# Altium integrated library Motorola Microcontroller 16-Bit.IntLib: 323 symbols (part 20 of 21)
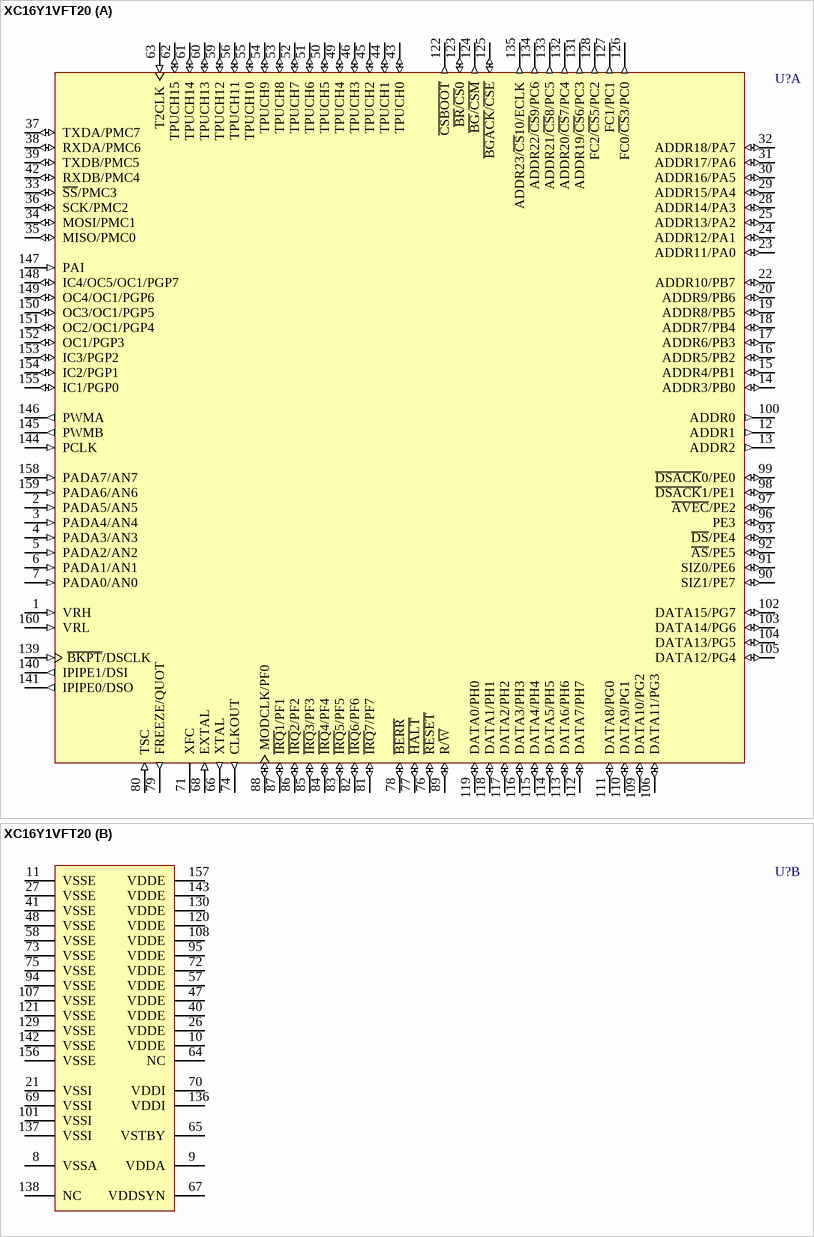
[diagram p159: symbol XC16Y1VFT20]

## XC16Y1VFT20
designator U?
16-Bit Microcontroller; PackageDocument: rev1.3, Nov-1998; Published: 21-Mar-2003; LatestRevisionDate: 6-Jun-2005; LatestRevisionNote: Stylized 3D Model Added.; DatasheetDocument: Jan-1993; PackageReference: 864A-01; Publisher: Altium Limited; Code_IPC: QFP28X28-160; ComponentLink1Description: Manufacturer Link; ComponentLink1URL: http://www.freescale.com/; ComponentLink2Description: Datasheet; ComponentLink2URL: http://www.freescale.com/files/microcontrollers/doc/prod_brief/MC68HC16Y1TS.pdf
footprint 864A-01 (QFP; 160 Leads; Body 28 x 28 mm; Pitch 0.65 mm)
3D model XC16-864A-01 (QFP; 160 Leads; Body 28 x 28 mm; Pitch 0.65 mm)
part A pins: 1 VRH (in), 2 PADA5/AN5 (in), 3 PADA4/AN4 (in), 4 PADA3/AN3 (in), 5 PADA2/AN2 (in), 6 PADA1/AN1 (in), 7 PADA0/AN0 (in), 12 ADDR1 (out), 13 ADDR2 (out), 14 ADDR3/PB0 (io), 15 ADDR4/PB1 (io), 16 ADDR5/PB2 (io), 17 ADDR6/PB3 (io), 18 ADDR7/PB4 (io), 19 ADDR8/PB5 (io), 20 ADDR9/PB6 (io), 22 ADDR10/PB7 (io), 23 ADDR11/PA0 (io), 24 ADDR12/PA1 (io), 25 ADDR13/PA2 (io), 28 ADDR14/PA3 (io), 29 ADDR15/PA4 (io), 30 ADDR16/PA5 (io), 31 ADDR17/PA6 (io), 32 ADDR18/PA7 (io), 33 ~{SS}/PMC3 (io), 34 MOSI/PMC1 (io), 35 MISO/PMC0 (io), 36 SCK/PMC2 (io), 37 TXDA/PMC7 (io), 38 RXDA/PMC6 (io), 39 TXDB/PMC5 (io), 42 RXDB/PMC4 (io), 43 TPUCH0 (io), 44 TPUCH1 (io), 45 TPUCH2 (io), 46 TPUCH3 (io), 49 TPUCH4 (io), 50 TPUCH5 (io), 51 TPUCH6 (io), 52 TPUCH7 (io), 53 TPUCH8 (io), 54 TPUCH9 (io), 55 TPUCH10 (io), 56 TPUCH11 (io), 59 TPUCH12 (io), 60 TPUCH13 (io), 61 TPUCH14 (io), 62 TPUCH15 (io), 63 T2CLK (in), 66 XTAL (out), 68 EXTAL (in), 71 XFC, 74 CLKOUT (out), 76 ~{RESET} (io), 77 ~{HALT} (io), 78 ~{BERR} (io), 79 FREEZE/QUOT (out), 80 TSC (in), 81 ~{IRQ}7/PF7 (io), 82 ~{IRQ}6/PF6 (io), 83 ~{IRQ}5/PF5 (io), 84 ~{IRQ}4/PF4 (io), 85 ~{IRQ}3/PF3 (io), 86 ~{IRQ}2/PF2 (io), 87 ~{IRQ}1/PF1 (io), 88 MODCLK/PF0 (io), 89 R/~{W} (io), 90 SIZ1/PE7 (io), 91 SIZ0/PE6 (io), 92 ~{AS}/PE5 (io), 93 ~{DS}/PE4 (io), 96 PE3 (io), 97 ~{AVEC}/PE2 (io), 98 ~{DSACK}1/PE1 (io), 99 ~{DSACK}0/PE0 (io), 100 ADDR0 (out), 102 DATA15/PG7 (io), 103 DATA14/PG6 (io), 104 DATA13/PG5 (io), 105 DATA12/PG4 (io), 106 DATA11/PG3 (io), 109 DATA10/PG2 (io), 110 DATA9/PG1 (io), 111 DATA8/PG0 (io), 112 DATA7/PH7 (io), 113 DATA6/PH6 (io), 114 DATA5/PH5 (io), 115 DATA4/PH4 (io), 116 DATA3/PH3 (io), 117 DATA2/PH2 (io), 118 DATA1/PH1 (io), 119 DATA0/PH0 (io), 122 ~{CSBOOT} (out), 123 ~{BR}/~{CS}0 (io), 124 ~{BG}/~{CSM} (out), 125 ~{BGACK}/~{CSE} (io), 126 FC0/~{CS}3/PC0 (out), 127 FC1/PC1 (out), 128 FC2/~{CS}5/PC2 (out), 131 ADDR19/~{CS}6/PC3 (out), 132 ADDR20/~{CS}7/PC4 (out), 133 ADDR21/~{CS}8/PC5 (out), 134 ADDR22/~{CS}9/PC6 (out), 135 ADDR23/~{CS}10/ECLK (out), 139 ~{BKPT}/DSCLK (in), 140 IPIPE1/DSI (out), 141 IPIPE0/DSO (out), 144 PCLK (in), 145 PWMB (out), 146 PWMA (out), 147 PAI (in), 148 IC4/OC5/OC1/PGP7 (io), 149 OC4/OC1/PGP6 (io), 150 OC3/OC1/PGP5 (io), 151 OC2/OC1/PGP4 (io), 152 OC1/PGP3 (io), 153 IC3/PGP2 (io), 154 IC2/PGP1 (io), 155 IC1/PGP0 (io), 158 PADA7/AN7 (in), 159 PADA6/AN6 (in), 160 VRL (in)
part B pins: 8 VSSA (power), 9 VDDA (power), 10 VDDE (power), 11 VSSE (power), 21 VSSI (power), 26 VDDE (power), 27 VSSE (power), 40 VDDE (power), 41 VSSE (power), 47 VDDE (power), 48 VSSE (power), 57 VDDE (power), 58 VSSE (power), 64 NC, 65 VSTBY (power), 67 VDDSYN (power), 69 VSSI (power), 70 VDDI (power), 72 VDDE (power), 73 VSSE (power), 75 VSSE (power), 94 VSSE (power), 95 VDDE (power), 101 VSSI (power), 107 VSSE (power), 108 VDDE (power), 120 VDDE (power), 121 VSSE (power), 129 VSSE (power), 130 VDDE (power), 136 VDDI (power), 137 VSSI (power), 138 NC, 142 VSSE (power), 143 VDDE (power), 156 VSSE (power), 157 VDDE (power)

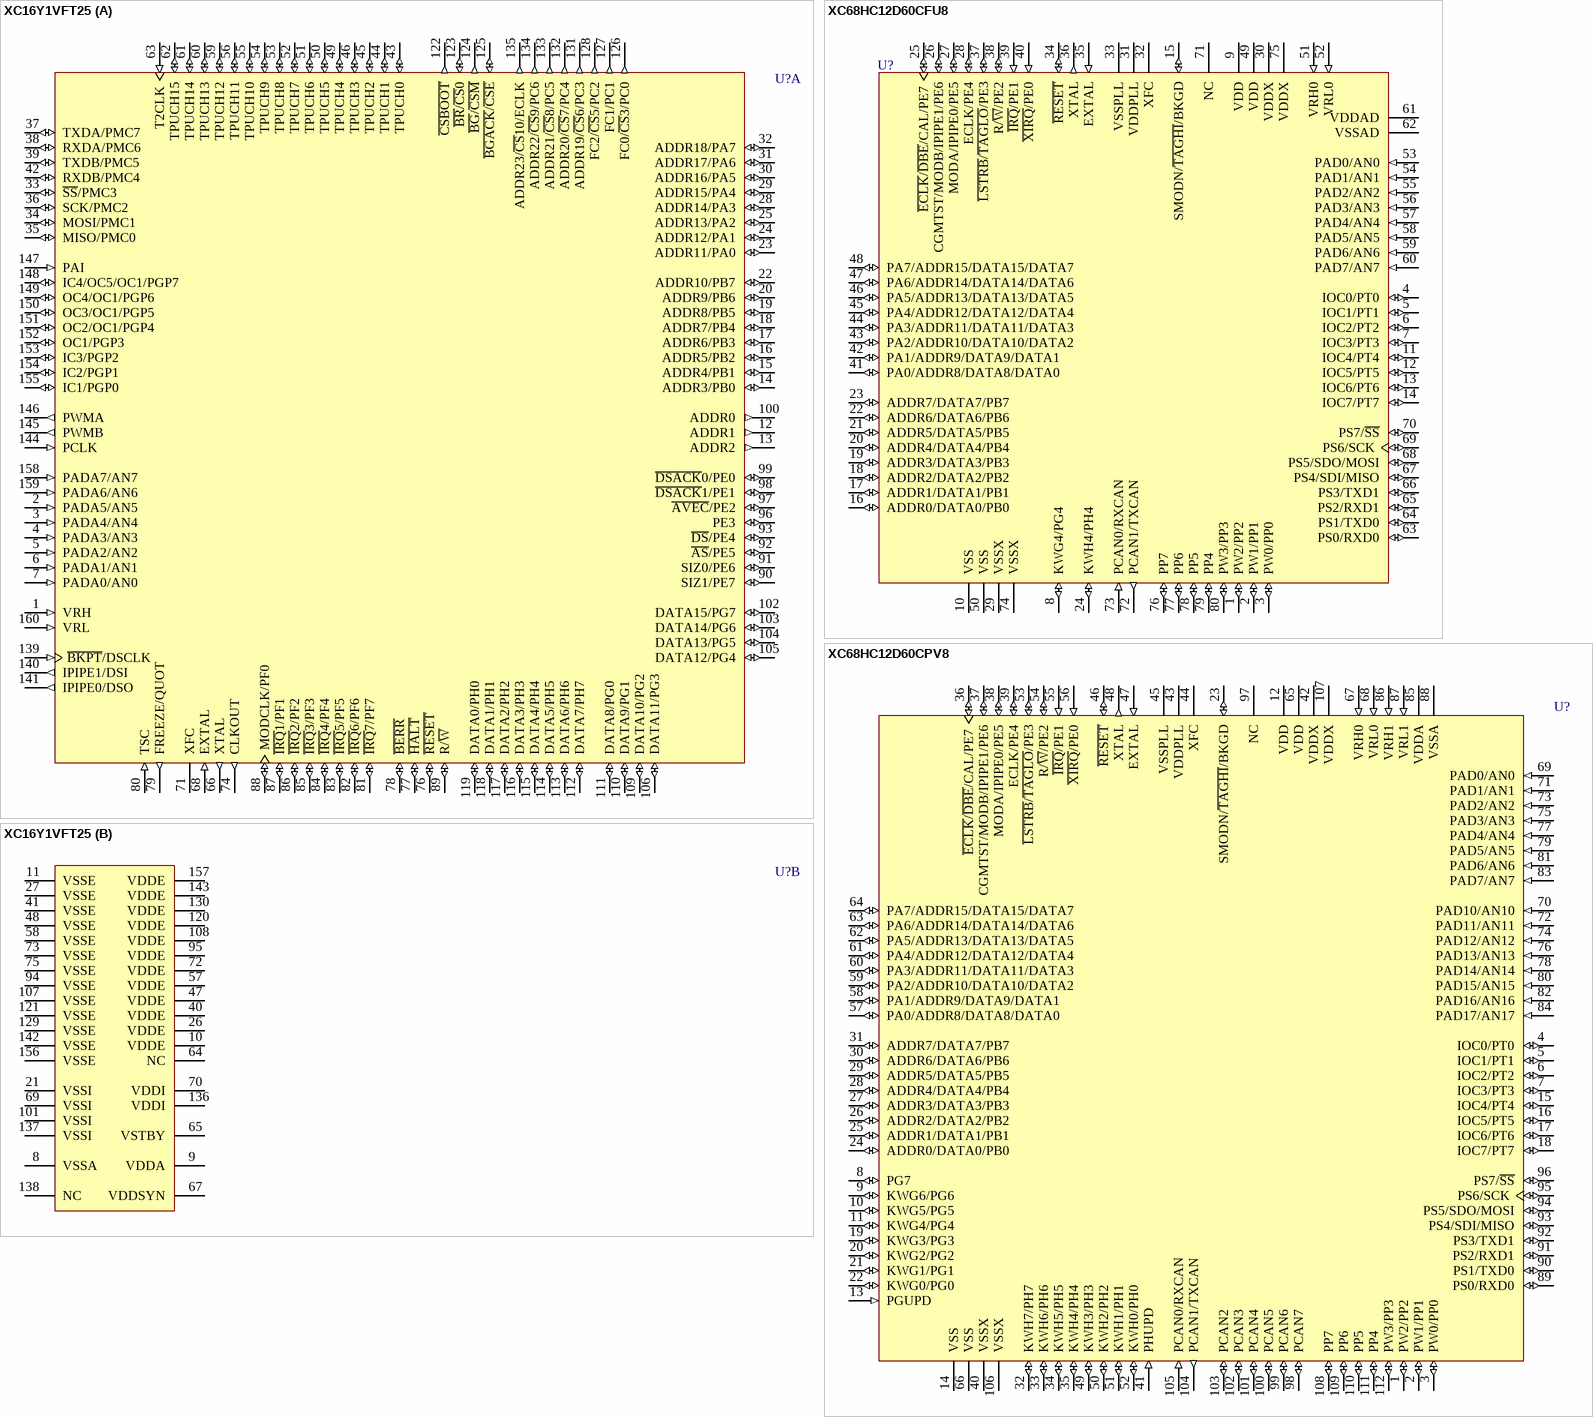
[diagram p136: symbols XC16Y1VFT25 to XC68HC12D60CPV8]

## XC16Y1VFT25
designator U?
16-Bit Microcontroller; PackageDocument: rev1.3, Nov-1998; Published: 21-Mar-2003; LatestRevisionDate: 6-Jun-2005; LatestRevisionNote: Stylized 3D Model Added.; DatasheetDocument: Jan-1993; PackageReference: 864A-01; Publisher: Altium Limited; Code_IPC: QFP28X28-160; ComponentLink1Description: Manufacturer Link; ComponentLink1URL: http://www.freescale.com/; ComponentLink2Description: Datasheet; ComponentLink2URL: http://www.freescale.com/files/microcontrollers/doc/prod_brief/MC68HC16Y1TS.pdf
footprint 864A-01 (QFP; 160 Leads; Body 28 x 28 mm; Pitch 0.65 mm)
3D model XC16-864A-01 (QFP; 160 Leads; Body 28 x 28 mm; Pitch 0.65 mm)
part A pins: 1 VRH (in), 2 PADA5/AN5 (in), 3 PADA4/AN4 (in), 4 PADA3/AN3 (in), 5 PADA2/AN2 (in), 6 PADA1/AN1 (in), 7 PADA0/AN0 (in), 12 ADDR1 (out), 13 ADDR2 (out), 14 ADDR3/PB0 (io), 15 ADDR4/PB1 (io), 16 ADDR5/PB2 (io), 17 ADDR6/PB3 (io), 18 ADDR7/PB4 (io), 19 ADDR8/PB5 (io), 20 ADDR9/PB6 (io), 22 ADDR10/PB7 (io), 23 ADDR11/PA0 (io), 24 ADDR12/PA1 (io), 25 ADDR13/PA2 (io), 28 ADDR14/PA3 (io), 29 ADDR15/PA4 (io), 30 ADDR16/PA5 (io), 31 ADDR17/PA6 (io), 32 ADDR18/PA7 (io), 33 ~{SS}/PMC3 (io), 34 MOSI/PMC1 (io), 35 MISO/PMC0 (io), 36 SCK/PMC2 (io), 37 TXDA/PMC7 (io), 38 RXDA/PMC6 (io), 39 TXDB/PMC5 (io), 42 RXDB/PMC4 (io), 43 TPUCH0 (io), 44 TPUCH1 (io), 45 TPUCH2 (io), 46 TPUCH3 (io), 49 TPUCH4 (io), 50 TPUCH5 (io), 51 TPUCH6 (io), 52 TPUCH7 (io), 53 TPUCH8 (io), 54 TPUCH9 (io), 55 TPUCH10 (io), 56 TPUCH11 (io), 59 TPUCH12 (io), 60 TPUCH13 (io), 61 TPUCH14 (io), 62 TPUCH15 (io), 63 T2CLK (in), 66 XTAL (out), 68 EXTAL (in), 71 XFC, 74 CLKOUT (out), 76 ~{RESET} (io), 77 ~{HALT} (io), 78 ~{BERR} (io), 79 FREEZE/QUOT (out), 80 TSC (in), 81 ~{IRQ}7/PF7 (io), 82 ~{IRQ}6/PF6 (io), 83 ~{IRQ}5/PF5 (io), 84 ~{IRQ}4/PF4 (io), 85 ~{IRQ}3/PF3 (io), 86 ~{IRQ}2/PF2 (io), 87 ~{IRQ}1/PF1 (io), 88 MODCLK/PF0 (io), 89 R/~{W} (io), 90 SIZ1/PE7 (io), 91 SIZ0/PE6 (io), 92 ~{AS}/PE5 (io), 93 ~{DS}/PE4 (io), 96 PE3 (io), 97 ~{AVEC}/PE2 (io), 98 ~{DSACK}1/PE1 (io), 99 ~{DSACK}0/PE0 (io), 100 ADDR0 (out), 102 DATA15/PG7 (io), 103 DATA14/PG6 (io), 104 DATA13/PG5 (io), 105 DATA12/PG4 (io), 106 DATA11/PG3 (io), 109 DATA10/PG2 (io), 110 DATA9/PG1 (io), 111 DATA8/PG0 (io), 112 DATA7/PH7 (io), 113 DATA6/PH6 (io), 114 DATA5/PH5 (io), 115 DATA4/PH4 (io), 116 DATA3/PH3 (io), 117 DATA2/PH2 (io), 118 DATA1/PH1 (io), 119 DATA0/PH0 (io), 122 ~{CSBOOT} (out), 123 ~{BR}/~{CS}0 (io), 124 ~{BG}/~{CSM} (out), 125 ~{BGACK}/~{CSE} (io), 126 FC0/~{CS}3/PC0 (out), 127 FC1/PC1 (out), 128 FC2/~{CS}5/PC2 (out), 131 ADDR19/~{CS}6/PC3 (out), 132 ADDR20/~{CS}7/PC4 (out), 133 ADDR21/~{CS}8/PC5 (out), 134 ADDR22/~{CS}9/PC6 (out), 135 ADDR23/~{CS}10/ECLK (out), 139 ~{BKPT}/DSCLK (in), 140 IPIPE1/DSI (out), 141 IPIPE0/DSO (out), 144 PCLK (in), 145 PWMB (out), 146 PWMA (out), 147 PAI (in), 148 IC4/OC5/OC1/PGP7 (io), 149 OC4/OC1/PGP6 (io), 150 OC3/OC1/PGP5 (io), 151 OC2/OC1/PGP4 (io), 152 OC1/PGP3 (io), 153 IC3/PGP2 (io), 154 IC2/PGP1 (io), 155 IC1/PGP0 (io), 158 PADA7/AN7 (in), 159 PADA6/AN6 (in), 160 VRL (in)
part B pins: 8 VSSA (power), 9 VDDA (power), 10 VDDE (power), 11 VSSE (power), 21 VSSI (power), 26 VDDE (power), 27 VSSE (power), 40 VDDE (power), 41 VSSE (power), 47 VDDE (power), 48 VSSE (power), 57 VDDE (power), 58 VSSE (power), 64 NC, 65 VSTBY (power), 67 VDDSYN (power), 69 VSSI (power), 70 VDDI (power), 72 VDDE (power), 73 VSSE (power), 75 VSSE (power), 94 VSSE (power), 95 VDDE (power), 101 VSSI (power), 107 VSSE (power), 108 VDDE (power), 120 VDDE (power), 121 VSSE (power), 129 VSSE (power), 130 VDDE (power), 136 VDDI (power), 137 VSSI (power), 138 NC, 142 VSSE (power), 143 VDDE (power), 156 VSSE (power), 157 VDDE (power)

## XC68HC12D60CFU8
designator U?
16-Bit Microcontroller; PackageDocument: 2000; Published: 21-Mar-2003; LatestRevisionDate: 6-Jun-2005; LatestRevisionNote: Stylized 3D Model Added.; DatasheetDocument: Jul-2002; PackageReference: 841B; Publisher: Altium Limited; Code_IPC: QFP14X14-80; ComponentLink1Description: Manufacturer Link; ComponentLink1URL: http://www.freescale.com/; ComponentLink2Description: Datasheet; ComponentLink2URL: http://www.freescale.com/files/microcontrollers/doc/data_sheet/MC68HC912D60.pdf
footprint 841B (Plastic QFP; 80 Leads; Body 14 x 14 mm; Pitch 0.65 mm)
3D model XC68HC12-841B (Plastic QFP; 80 Leads; Body 14 x 14 mm; Pitch 0.65 mm)
pins: 1 PW2/PP2 (io), 2 PW1/PP1 (io), 3 PW0/PP0 (io), 4 IOC0/PT0 (io), 5 IOC1/PT1 (io), 6 IOC2/PT2 (io), 7 IOC3/PT3 (io), 8 KWG4/PG4 (io), 9 VDD (power), 10 VSS (power), 11 IOC4/PT4 (io), 12 IOC5/PT5 (io), 13 IOC6/PT6 (io), 14 IOC7/PT7 (io), 15 SMODN/~{TAGHI}/BKGD (io), 16 ADDR0/DATA0/PB0 (io), 17 ADDR1/DATA1/PB1 (io), 18 ADDR2/DATA2/PB2 (io), 19 ADDR3/DATA3/PB3 (io), 20 ADDR4/DATA4/PB4 (io), 21 ADDR5/DATA5/PB5 (io), 22 ADDR6/DATA6/PB6 (io), 23 ADDR7/DATA7/PB7 (io), 24 KWH4/PH4 (io), 25 ~{ECLK}/~{DBE}/CAL/PE7 (io), 26 CGMTST/MODB/IPIPE1/PE6 (io), 27 MODA/IPIPE0/PE5 (io), 28 ECLK/PE4 (io), 29 VSSX (power), 30 VDDX (power), 31 VDDPLL (power), 32 XFC, 33 VSSPLL (power), 34 ~{RESET} (io), 35 EXTAL (in), 36 XTAL (out), 37 ~{LSTRB}/~{TAGLO}/PE3 (io), 38 R/~{W}/PE2 (io), 39 ~{IRQ}/PE1 (in), 40 ~{XIRQ}/PE0 (in), 41 PA0/ADDR8/DATA8/DATA0 (io), 42 PA1/ADDR9/DATA9/DATA1 (io), 43 PA2/ADDR10/DATA10/DATA2 (io), 44 PA3/ADDR11/DATA11/DATA3 (io), 45 PA4/ADDR12/DATA12/DATA4 (io), 46 PA5/ADDR13/DATA13/DATA5 (io), 47 PA6/ADDR14/DATA14/DATA6 (io), 48 PA7/ADDR15/DATA15/DATA7 (io), 49 VDD (power), 50 VSS (power), 51 VRH0 (in), 52 VRL0 (in), 53 PAD0/AN0 (in), 54 PAD1/AN1 (in), 55 PAD2/AN2 (in), 56 PAD3/AN3 (in), 57 PAD4/AN4 (in), 58 PAD5/AN5 (in), 59 PAD6/AN6 (in), 60 PAD7/AN7 (in), 61 VDDAD (power), 62 VSSAD (power), 63 PS0/RXD0 (io), 64 PS1/TXD0 (io), 65 PS2/RXD1 (io), 66 PS3/TXD1 (io), 67 PS4/SDI/MISO (io), 68 PS5/SDO/MOSI (io), 69 PS6/SCK (io), 70 PS7/~{SS} (io), 71 NC, 72 PCAN1/TXCAN (out), 73 PCAN0/RXCAN (in), 74 VSSX (power), 75 VDDX (power), 76 PP7 (io), 77 PP6 (io), 78 PP5 (io), 79 PP4 (io), 80 PW3/PP3 (io)

## XC68HC12D60CPV8
designator U?
16-Bit Microcontroller; PackageDocument: rev3.1, Nov-2000; Published: 21-Mar-2003; LatestRevisionDate: 6-Jun-2005; LatestRevisionNote: Stylized 3D Model Added.; DatasheetDocument: Jul-2002; PackageReference: 987-01; Publisher: Altium Limited; ComponentLink1Description: Manufacturer Link; ComponentLink1URL: http://www.freescale.com/; ComponentLink2Description: Datasheet; ComponentLink2URL: http://www.freescale.com/files/microcontrollers/doc/data_sheet/MC68HC912D60.pdf
footprint 987-01 (QFP; 112 Leads; Body 20 x 20 mm; Pitch 0.65 mm)
3D model XC68HC12-987-01 (QFP; 112 Leads; Body 20 x 20 mm; Pitch 0.65 mm)
pins: 1 PW2/PP2 (io), 2 PW1/PP1 (io), 3 PW0/PP0 (io), 4 IOC0/PT0 (io), 5 IOC1/PT1 (io), 6 IOC2/PT2 (io), 7 IOC3/PT3 (io), 8 PG7 (io), 9 KWG6/PG6 (io), 10 KWG5/PG5 (io), 11 KWG4/PG4 (io), 12 VDD (power), 13 PGUPD (in), 14 VSS (power), 15 IOC4/PT4 (io), 16 IOC5/PT5 (io), 17 IOC6/PT6 (io), 18 IOC7/PT7 (io), 19 KWG3/PG3 (io), 20 KWG2/PG2 (io), 21 KWG1/PG1 (io), 22 KWG0/PG0 (io), 23 SMODN/~{TAGHI}/BKGD (io), 24 ADDR0/DATA0/PB0 (io), 25 ADDR1/DATA1/PB1 (io), 26 ADDR2/DATA2/PB2 (io), 27 ADDR3/DATA3/PB3 (io), 28 ADDR4/DATA4/PB4 (io), 29 ADDR5/DATA5/PB5 (io), 30 ADDR6/DATA6/PB6 (io), 31 ADDR7/DATA7/PB7 (io), 32 KWH7/PH7 (io), 33 KWH6/PH6 (io), 34 KWH5/PH5 (io), 35 KWH4/PH4 (io), 36 ~{ECLK}/~{DBE}/CAL/PE7 (io), 37 CGMTST/MODB/IPIPE1/PE6 (io), 38 MODA/IPIPE0/PE5 (io), 39 ECLK/PE4 (io), 40 VSSX (power), 41 PHUPD (in), 42 VDDX (power), 43 VDDPLL (power), 44 XFC, 45 VSSPLL (power), 46 ~{RESET} (io), 47 EXTAL (in), 48 XTAL (out), 49 KWH3/PH3 (io), 50 KWH2/PH2 (io), 51 KWH1/PH1 (io), 52 KWH0/PH0 (io), 53 ~{LSTRB}/~{TAGLO}/PE3 (io), 54 R/~{W}/PE2 (io), 55 ~{IRQ}/PE1 (in), 56 ~{XIRQ}/PE0 (in), 57 PA0/ADDR8/DATA8/DATA0 (io), 58 PA1/ADDR9/DATA9/DATA1 (io), 59 PA2/ADDR10/DATA10/DATA2 (io), 60 PA3/ADDR11/DATA11/DATA3 (io), 61 PA4/ADDR12/DATA12/DATA4 (io), 62 PA5/ADDR13/DATA13/DATA5 (io), 63 PA6/ADDR14/DATA14/DATA6 (io), 64 PA7/ADDR15/DATA15/DATA7 (io), 65 VDD (power), 66 VSS (power), 67 VRH0 (in), 68 VRL0 (in), 69 PAD0/AN0 (in), 70 PAD10/AN10 (in), 71 PAD1/AN1 (in), 72 PAD11/AN11 (in), 73 PAD2/AN2 (in), 74 PAD12/AN12 (in), 75 PAD3/AN3 (in), 76 PAD13/AN13 (in), 77 PAD4/AN4 (in), 78 PAD14/AN14 (in), 79 PAD5/AN5 (in), 80 PAD15/AN15 (in), 81 PAD6/AN6 (in), 82 PAD16/AN16 (in), 83 PAD7/AN7 (in), 84 PAD17/AN17 (in), 85 VDDA (power), 86 VRH1 (in), 87 VRL1 (in), 88 VSSA (power), 89 PS0/RXD0 (io), 90 PS1/TXD0 (io), 91 PS2/RXD1 (io), 92 PS3/TXD1 (io), 93 PS4/SDI/MISO (io), 94 PS5/SDO/MOSI (io), 95 PS6/SCK (io), 96 PS7/~{SS} (io), 97 NC, 98 PCAN7 (io), 99 PCAN6 (io), 100 PCAN5 (io), 101 PCAN4 (io), 102 PCAN3 (io), 103 PCAN2 (io), 104 PCAN1/TXCAN (out), 105 PCAN0/RXCAN (in), 106 VSSX (power), 107 VDDX (power), 108 PP7 (io), 109 PP6 (io), 110 PP5 (io), 111 PP4 (io), 112 PW3/PP3 (io)

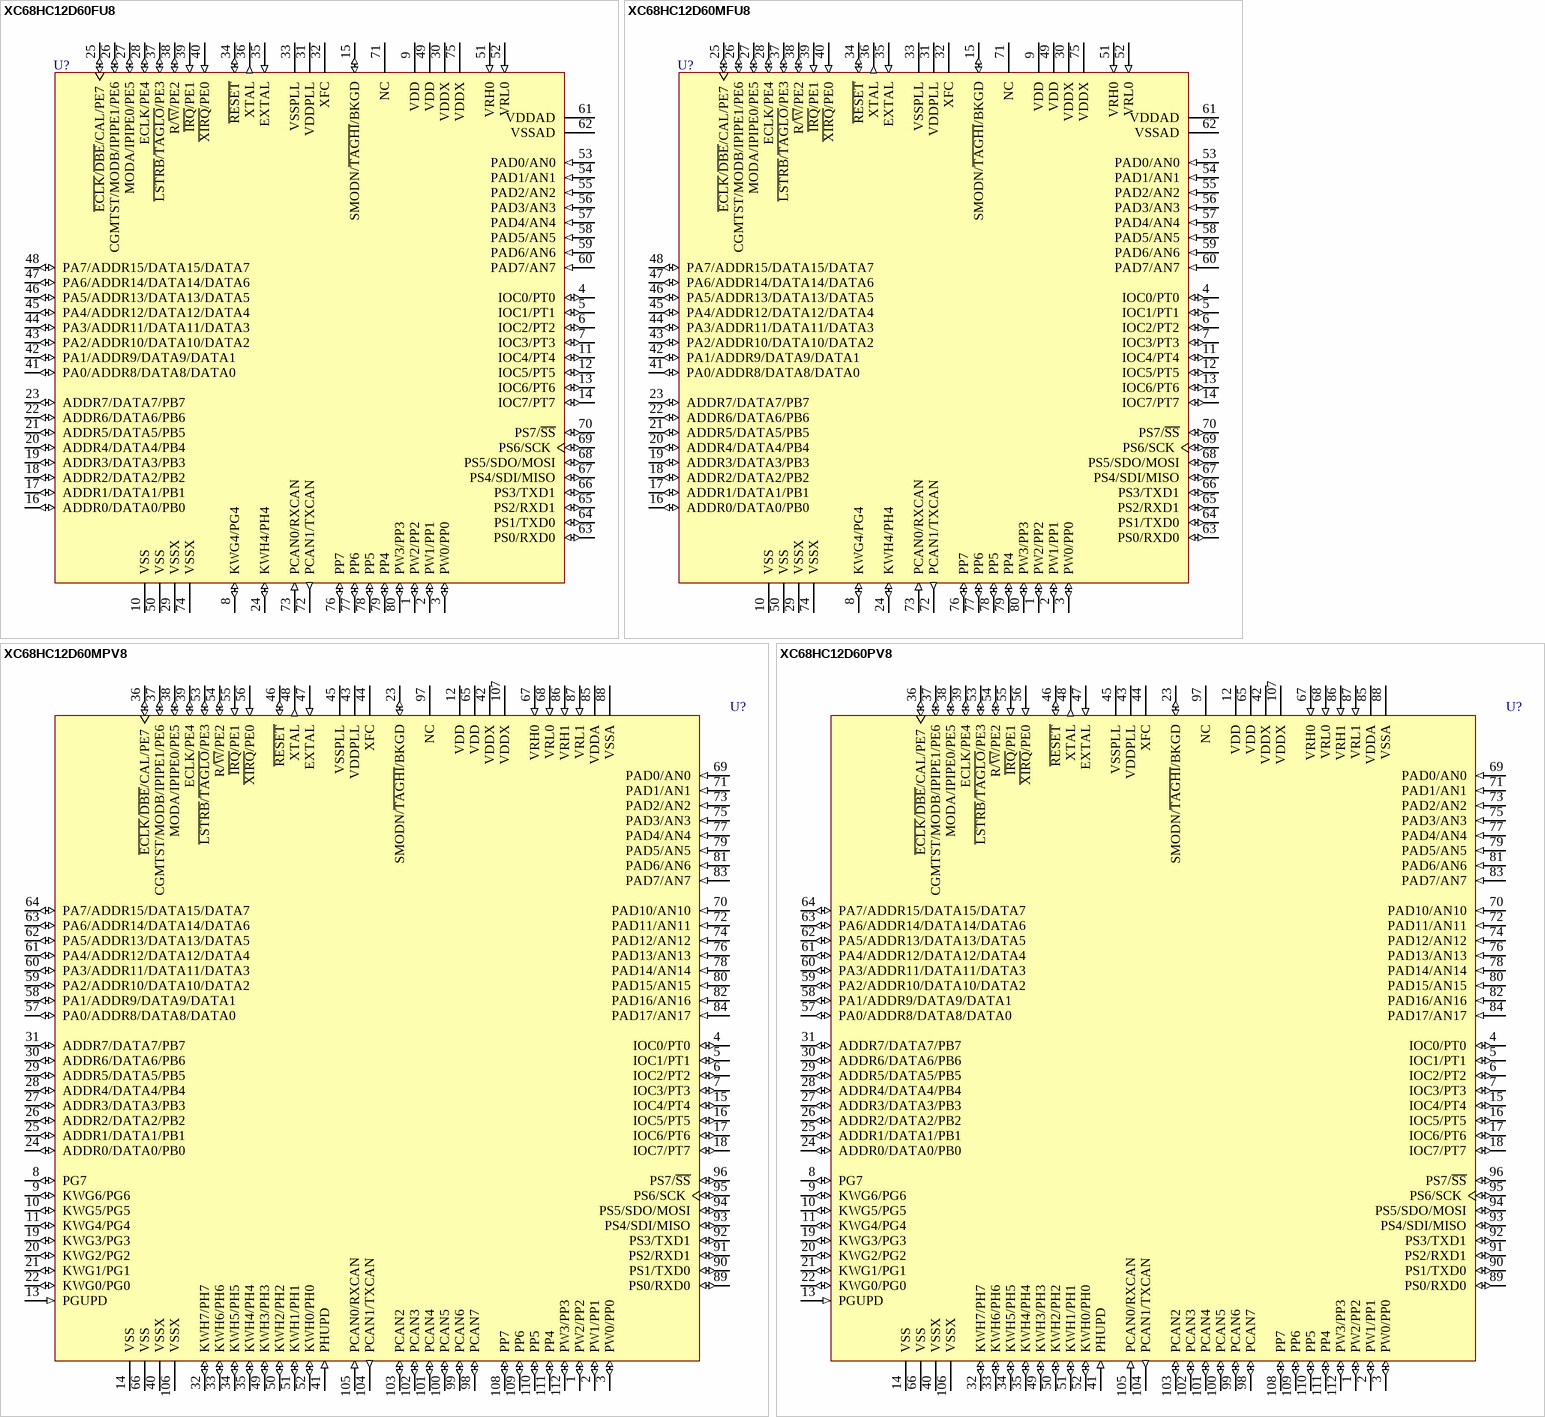
[diagram p137: symbols XC68HC12D60FU8 to XC68HC12D60PV8]

## XC68HC12D60FU8
designator U?
16-Bit Microcontroller; PackageDocument: 2000; Published: 21-Mar-2003; LatestRevisionDate: 6-Jun-2005; LatestRevisionNote: Stylized 3D Model Added.; DatasheetDocument: Jul-2002; PackageReference: 841B; Publisher: Altium Limited; Code_IPC: QFP14X14-80; ComponentLink1Description: Manufacturer Link; ComponentLink1URL: http://www.freescale.com/; ComponentLink2Description: Datasheet; ComponentLink2URL: http://www.freescale.com/files/microcontrollers/doc/data_sheet/MC68HC912D60.pdf
footprint 841B (Plastic QFP; 80 Leads; Body 14 x 14 mm; Pitch 0.65 mm)
3D model XC68HC12-841B (Plastic QFP; 80 Leads; Body 14 x 14 mm; Pitch 0.65 mm)
pins: 1 PW2/PP2 (io), 2 PW1/PP1 (io), 3 PW0/PP0 (io), 4 IOC0/PT0 (io), 5 IOC1/PT1 (io), 6 IOC2/PT2 (io), 7 IOC3/PT3 (io), 8 KWG4/PG4 (io), 9 VDD (power), 10 VSS (power), 11 IOC4/PT4 (io), 12 IOC5/PT5 (io), 13 IOC6/PT6 (io), 14 IOC7/PT7 (io), 15 SMODN/~{TAGHI}/BKGD (io), 16 ADDR0/DATA0/PB0 (io), 17 ADDR1/DATA1/PB1 (io), 18 ADDR2/DATA2/PB2 (io), 19 ADDR3/DATA3/PB3 (io), 20 ADDR4/DATA4/PB4 (io), 21 ADDR5/DATA5/PB5 (io), 22 ADDR6/DATA6/PB6 (io), 23 ADDR7/DATA7/PB7 (io), 24 KWH4/PH4 (io), 25 ~{ECLK}/~{DBE}/CAL/PE7 (io), 26 CGMTST/MODB/IPIPE1/PE6 (io), 27 MODA/IPIPE0/PE5 (io), 28 ECLK/PE4 (io), 29 VSSX (power), 30 VDDX (power), 31 VDDPLL (power), 32 XFC, 33 VSSPLL (power), 34 ~{RESET} (io), 35 EXTAL (in), 36 XTAL (out), 37 ~{LSTRB}/~{TAGLO}/PE3 (io), 38 R/~{W}/PE2 (io), 39 ~{IRQ}/PE1 (in), 40 ~{XIRQ}/PE0 (in), 41 PA0/ADDR8/DATA8/DATA0 (io), 42 PA1/ADDR9/DATA9/DATA1 (io), 43 PA2/ADDR10/DATA10/DATA2 (io), 44 PA3/ADDR11/DATA11/DATA3 (io), 45 PA4/ADDR12/DATA12/DATA4 (io), 46 PA5/ADDR13/DATA13/DATA5 (io), 47 PA6/ADDR14/DATA14/DATA6 (io), 48 PA7/ADDR15/DATA15/DATA7 (io), 49 VDD (power), 50 VSS (power), 51 VRH0 (in), 52 VRL0 (in), 53 PAD0/AN0 (in), 54 PAD1/AN1 (in), 55 PAD2/AN2 (in), 56 PAD3/AN3 (in), 57 PAD4/AN4 (in), 58 PAD5/AN5 (in), 59 PAD6/AN6 (in), 60 PAD7/AN7 (in), 61 VDDAD (power), 62 VSSAD (power), 63 PS0/RXD0 (io), 64 PS1/TXD0 (io), 65 PS2/RXD1 (io), 66 PS3/TXD1 (io), 67 PS4/SDI/MISO (io), 68 PS5/SDO/MOSI (io), 69 PS6/SCK (io), 70 PS7/~{SS} (io), 71 NC, 72 PCAN1/TXCAN (out), 73 PCAN0/RXCAN (in), 74 VSSX (power), 75 VDDX (power), 76 PP7 (io), 77 PP6 (io), 78 PP5 (io), 79 PP4 (io), 80 PW3/PP3 (io)

## XC68HC12D60MFU8
designator U?
16-Bit Microcontroller; PackageDocument: 2000; Note: M Temperature Operation only available for single chip modes.; Published: 21-Mar-2003; LatestRevisionDate: 6-Jun-2005; LatestRevisionNote: Stylized 3D Model Added.; DatasheetDocument: Jul-2002; PackageReference: 841B; Publisher: Altium Limited; Code_IPC: QFP14X14-80; ComponentLink1Description: Manufacturer Link; ComponentLink1URL: http://www.freescale.com/; ComponentLink2Description: Datasheet; ComponentLink2URL: http://www.freescale.com/files/microcontrollers/doc/data_sheet/MC68HC912D60.pdf
footprint 841B (Plastic QFP; 80 Leads; Body 14 x 14 mm; Pitch 0.65 mm)
3D model XC68HC12-841B (Plastic QFP; 80 Leads; Body 14 x 14 mm; Pitch 0.65 mm)
pins: 1 PW2/PP2 (io), 2 PW1/PP1 (io), 3 PW0/PP0 (io), 4 IOC0/PT0 (io), 5 IOC1/PT1 (io), 6 IOC2/PT2 (io), 7 IOC3/PT3 (io), 8 KWG4/PG4 (io), 9 VDD (power), 10 VSS (power), 11 IOC4/PT4 (io), 12 IOC5/PT5 (io), 13 IOC6/PT6 (io), 14 IOC7/PT7 (io), 15 SMODN/~{TAGHI}/BKGD (io), 16 ADDR0/DATA0/PB0 (io), 17 ADDR1/DATA1/PB1 (io), 18 ADDR2/DATA2/PB2 (io), 19 ADDR3/DATA3/PB3 (io), 20 ADDR4/DATA4/PB4 (io), 21 ADDR5/DATA5/PB5 (io), 22 ADDR6/DATA6/PB6 (io), 23 ADDR7/DATA7/PB7 (io), 24 KWH4/PH4 (io), 25 ~{ECLK}/~{DBE}/CAL/PE7 (io), 26 CGMTST/MODB/IPIPE1/PE6 (io), 27 MODA/IPIPE0/PE5 (io), 28 ECLK/PE4 (io), 29 VSSX (power), 30 VDDX (power), 31 VDDPLL (power), 32 XFC, 33 VSSPLL (power), 34 ~{RESET} (io), 35 EXTAL (in), 36 XTAL (out), 37 ~{LSTRB}/~{TAGLO}/PE3 (io), 38 R/~{W}/PE2 (io), 39 ~{IRQ}/PE1 (in), 40 ~{XIRQ}/PE0 (in), 41 PA0/ADDR8/DATA8/DATA0 (io), 42 PA1/ADDR9/DATA9/DATA1 (io), 43 PA2/ADDR10/DATA10/DATA2 (io), 44 PA3/ADDR11/DATA11/DATA3 (io), 45 PA4/ADDR12/DATA12/DATA4 (io), 46 PA5/ADDR13/DATA13/DATA5 (io), 47 PA6/ADDR14/DATA14/DATA6 (io), 48 PA7/ADDR15/DATA15/DATA7 (io), 49 VDD (power), 50 VSS (power), 51 VRH0 (in), 52 VRL0 (in), 53 PAD0/AN0 (in), 54 PAD1/AN1 (in), 55 PAD2/AN2 (in), 56 PAD3/AN3 (in), 57 PAD4/AN4 (in), 58 PAD5/AN5 (in), 59 PAD6/AN6 (in), 60 PAD7/AN7 (in), 61 VDDAD (power), 62 VSSAD (power), 63 PS0/RXD0 (io), 64 PS1/TXD0 (io), 65 PS2/RXD1 (io), 66 PS3/TXD1 (io), 67 PS4/SDI/MISO (io), 68 PS5/SDO/MOSI (io), 69 PS6/SCK (io), 70 PS7/~{SS} (io), 71 NC, 72 PCAN1/TXCAN (out), 73 PCAN0/RXCAN (in), 74 VSSX (power), 75 VDDX (power), 76 PP7 (io), 77 PP6 (io), 78 PP5 (io), 79 PP4 (io), 80 PW3/PP3 (io)

## XC68HC12D60MPV8
designator U?
16-Bit Microcontroller; PackageDocument: rev3.1, Nov-2000; Note: M Temperature Operation only available for single chip modes.; Published: 21-Mar-2003; LatestRevisionDate: 6-Jun-2005; LatestRevisionNote: Stylized 3D Model Added.; DatasheetDocument: Jul-2002; PackageReference: 987-01; Publisher: Altium Limited; ComponentLink1Description: Manufacturer Link; ComponentLink1URL: http://www.freescale.com/; ComponentLink2Description: Datasheet; ComponentLink2URL: http://www.freescale.com/files/microcontrollers/doc/data_sheet/MC68HC912D60.pdf
footprint 987-01 (QFP; 112 Leads; Body 20 x 20 mm; Pitch 0.65 mm)
3D model XC68HC12-987-01 (QFP; 112 Leads; Body 20 x 20 mm; Pitch 0.65 mm)
pins: 1 PW2/PP2 (io), 2 PW1/PP1 (io), 3 PW0/PP0 (io), 4 IOC0/PT0 (io), 5 IOC1/PT1 (io), 6 IOC2/PT2 (io), 7 IOC3/PT3 (io), 8 PG7 (io), 9 KWG6/PG6 (io), 10 KWG5/PG5 (io), 11 KWG4/PG4 (io), 12 VDD (power), 13 PGUPD (in), 14 VSS (power), 15 IOC4/PT4 (io), 16 IOC5/PT5 (io), 17 IOC6/PT6 (io), 18 IOC7/PT7 (io), 19 KWG3/PG3 (io), 20 KWG2/PG2 (io), 21 KWG1/PG1 (io), 22 KWG0/PG0 (io), 23 SMODN/~{TAGHI}/BKGD (io), 24 ADDR0/DATA0/PB0 (io), 25 ADDR1/DATA1/PB1 (io), 26 ADDR2/DATA2/PB2 (io), 27 ADDR3/DATA3/PB3 (io), 28 ADDR4/DATA4/PB4 (io), 29 ADDR5/DATA5/PB5 (io), 30 ADDR6/DATA6/PB6 (io), 31 ADDR7/DATA7/PB7 (io), 32 KWH7/PH7 (io), 33 KWH6/PH6 (io), 34 KWH5/PH5 (io), 35 KWH4/PH4 (io), 36 ~{ECLK}/~{DBE}/CAL/PE7 (io), 37 CGMTST/MODB/IPIPE1/PE6 (io), 38 MODA/IPIPE0/PE5 (io), 39 ECLK/PE4 (io), 40 VSSX (power), 41 PHUPD (in), 42 VDDX (power), 43 VDDPLL (power), 44 XFC, 45 VSSPLL (power), 46 ~{RESET} (io), 47 EXTAL (in), 48 XTAL (out), 49 KWH3/PH3 (io), 50 KWH2/PH2 (io), 51 KWH1/PH1 (io), 52 KWH0/PH0 (io), 53 ~{LSTRB}/~{TAGLO}/PE3 (io), 54 R/~{W}/PE2 (io), 55 ~{IRQ}/PE1 (in), 56 ~{XIRQ}/PE0 (in), 57 PA0/ADDR8/DATA8/DATA0 (io), 58 PA1/ADDR9/DATA9/DATA1 (io), 59 PA2/ADDR10/DATA10/DATA2 (io), 60 PA3/ADDR11/DATA11/DATA3 (io), 61 PA4/ADDR12/DATA12/DATA4 (io), 62 PA5/ADDR13/DATA13/DATA5 (io), 63 PA6/ADDR14/DATA14/DATA6 (io), 64 PA7/ADDR15/DATA15/DATA7 (io), 65 VDD (power), 66 VSS (power), 67 VRH0 (in), 68 VRL0 (in), 69 PAD0/AN0 (in), 70 PAD10/AN10 (in), 71 PAD1/AN1 (in), 72 PAD11/AN11 (in), 73 PAD2/AN2 (in), 74 PAD12/AN12 (in), 75 PAD3/AN3 (in), 76 PAD13/AN13 (in), 77 PAD4/AN4 (in), 78 PAD14/AN14 (in), 79 PAD5/AN5 (in), 80 PAD15/AN15 (in), 81 PAD6/AN6 (in), 82 PAD16/AN16 (in), 83 PAD7/AN7 (in), 84 PAD17/AN17 (in), 85 VDDA (power), 86 VRH1 (in), 87 VRL1 (in), 88 VSSA (power), 89 PS0/RXD0 (io), 90 PS1/TXD0 (io), 91 PS2/RXD1 (io), 92 PS3/TXD1 (io), 93 PS4/SDI/MISO (io), 94 PS5/SDO/MOSI (io), 95 PS6/SCK (io), 96 PS7/~{SS} (io), 97 NC, 98 PCAN7 (io), 99 PCAN6 (io), 100 PCAN5 (io), 101 PCAN4 (io), 102 PCAN3 (io), 103 PCAN2 (io), 104 PCAN1/TXCAN (out), 105 PCAN0/RXCAN (in), 106 VSSX (power), 107 VDDX (power), 108 PP7 (io), 109 PP6 (io), 110 PP5 (io), 111 PP4 (io), 112 PW3/PP3 (io)

## XC68HC12D60PV8
designator U?
16-Bit Microcontroller; PackageDocument: rev3.1, Nov-2000; Published: 21-Mar-2003; LatestRevisionDate: 6-Jun-2005; LatestRevisionNote: Stylized 3D Model Added.; DatasheetDocument: Jul-2002; PackageReference: 987-01; Publisher: Altium Limited; ComponentLink1Description: Manufacturer Link; ComponentLink1URL: http://www.freescale.com/; ComponentLink2Description: Datasheet; ComponentLink2URL: http://www.freescale.com/files/microcontrollers/doc/data_sheet/MC68HC912D60.pdf
footprint 987-01 (QFP; 112 Leads; Body 20 x 20 mm; Pitch 0.65 mm)
3D model XC68HC12-987-01 (QFP; 112 Leads; Body 20 x 20 mm; Pitch 0.65 mm)
pins: 1 PW2/PP2 (io), 2 PW1/PP1 (io), 3 PW0/PP0 (io), 4 IOC0/PT0 (io), 5 IOC1/PT1 (io), 6 IOC2/PT2 (io), 7 IOC3/PT3 (io), 8 PG7 (io), 9 KWG6/PG6 (io), 10 KWG5/PG5 (io), 11 KWG4/PG4 (io), 12 VDD (power), 13 PGUPD (in), 14 VSS (power), 15 IOC4/PT4 (io), 16 IOC5/PT5 (io), 17 IOC6/PT6 (io), 18 IOC7/PT7 (io), 19 KWG3/PG3 (io), 20 KWG2/PG2 (io), 21 KWG1/PG1 (io), 22 KWG0/PG0 (io), 23 SMODN/~{TAGHI}/BKGD (io), 24 ADDR0/DATA0/PB0 (io), 25 ADDR1/DATA1/PB1 (io), 26 ADDR2/DATA2/PB2 (io), 27 ADDR3/DATA3/PB3 (io), 28 ADDR4/DATA4/PB4 (io), 29 ADDR5/DATA5/PB5 (io), 30 ADDR6/DATA6/PB6 (io), 31 ADDR7/DATA7/PB7 (io), 32 KWH7/PH7 (io), 33 KWH6/PH6 (io), 34 KWH5/PH5 (io), 35 KWH4/PH4 (io), 36 ~{ECLK}/~{DBE}/CAL/PE7 (io), 37 CGMTST/MODB/IPIPE1/PE6 (io), 38 MODA/IPIPE0/PE5 (io), 39 ECLK/PE4 (io), 40 VSSX (power), 41 PHUPD (in), 42 VDDX (power), 43 VDDPLL (power), 44 XFC, 45 VSSPLL (power), 46 ~{RESET} (io), 47 EXTAL (in), 48 XTAL (out), 49 KWH3/PH3 (io), 50 KWH2/PH2 (io), 51 KWH1/PH1 (io), 52 KWH0/PH0 (io), 53 ~{LSTRB}/~{TAGLO}/PE3 (io), 54 R/~{W}/PE2 (io), 55 ~{IRQ}/PE1 (in), 56 ~{XIRQ}/PE0 (in), 57 PA0/ADDR8/DATA8/DATA0 (io), 58 PA1/ADDR9/DATA9/DATA1 (io), 59 PA2/ADDR10/DATA10/DATA2 (io), 60 PA3/ADDR11/DATA11/DATA3 (io), 61 PA4/ADDR12/DATA12/DATA4 (io), 62 PA5/ADDR13/DATA13/DATA5 (io), 63 PA6/ADDR14/DATA14/DATA6 (io), 64 PA7/ADDR15/DATA15/DATA7 (io), 65 VDD (power), 66 VSS (power), 67 VRH0 (in), 68 VRL0 (in), 69 PAD0/AN0 (in), 70 PAD10/AN10 (in), 71 PAD1/AN1 (in), 72 PAD11/AN11 (in), 73 PAD2/AN2 (in), 74 PAD12/AN12 (in), 75 PAD3/AN3 (in), 76 PAD13/AN13 (in), 77 PAD4/AN4 (in), 78 PAD14/AN14 (in), 79 PAD5/AN5 (in), 80 PAD15/AN15 (in), 81 PAD6/AN6 (in), 82 PAD16/AN16 (in), 83 PAD7/AN7 (in), 84 PAD17/AN17 (in), 85 VDDA (power), 86 VRH1 (in), 87 VRL1 (in), 88 VSSA (power), 89 PS0/RXD0 (io), 90 PS1/TXD0 (io), 91 PS2/RXD1 (io), 92 PS3/TXD1 (io), 93 PS4/SDI/MISO (io), 94 PS5/SDO/MOSI (io), 95 PS6/SCK (io), 96 PS7/~{SS} (io), 97 NC, 98 PCAN7 (io), 99 PCAN6 (io), 100 PCAN5 (io), 101 PCAN4 (io), 102 PCAN3 (io), 103 PCAN2 (io), 104 PCAN1/TXCAN (out), 105 PCAN0/RXCAN (in), 106 VSSX (power), 107 VDDX (power), 108 PP7 (io), 109 PP6 (io), 110 PP5 (io), 111 PP4 (io), 112 PW3/PP3 (io)

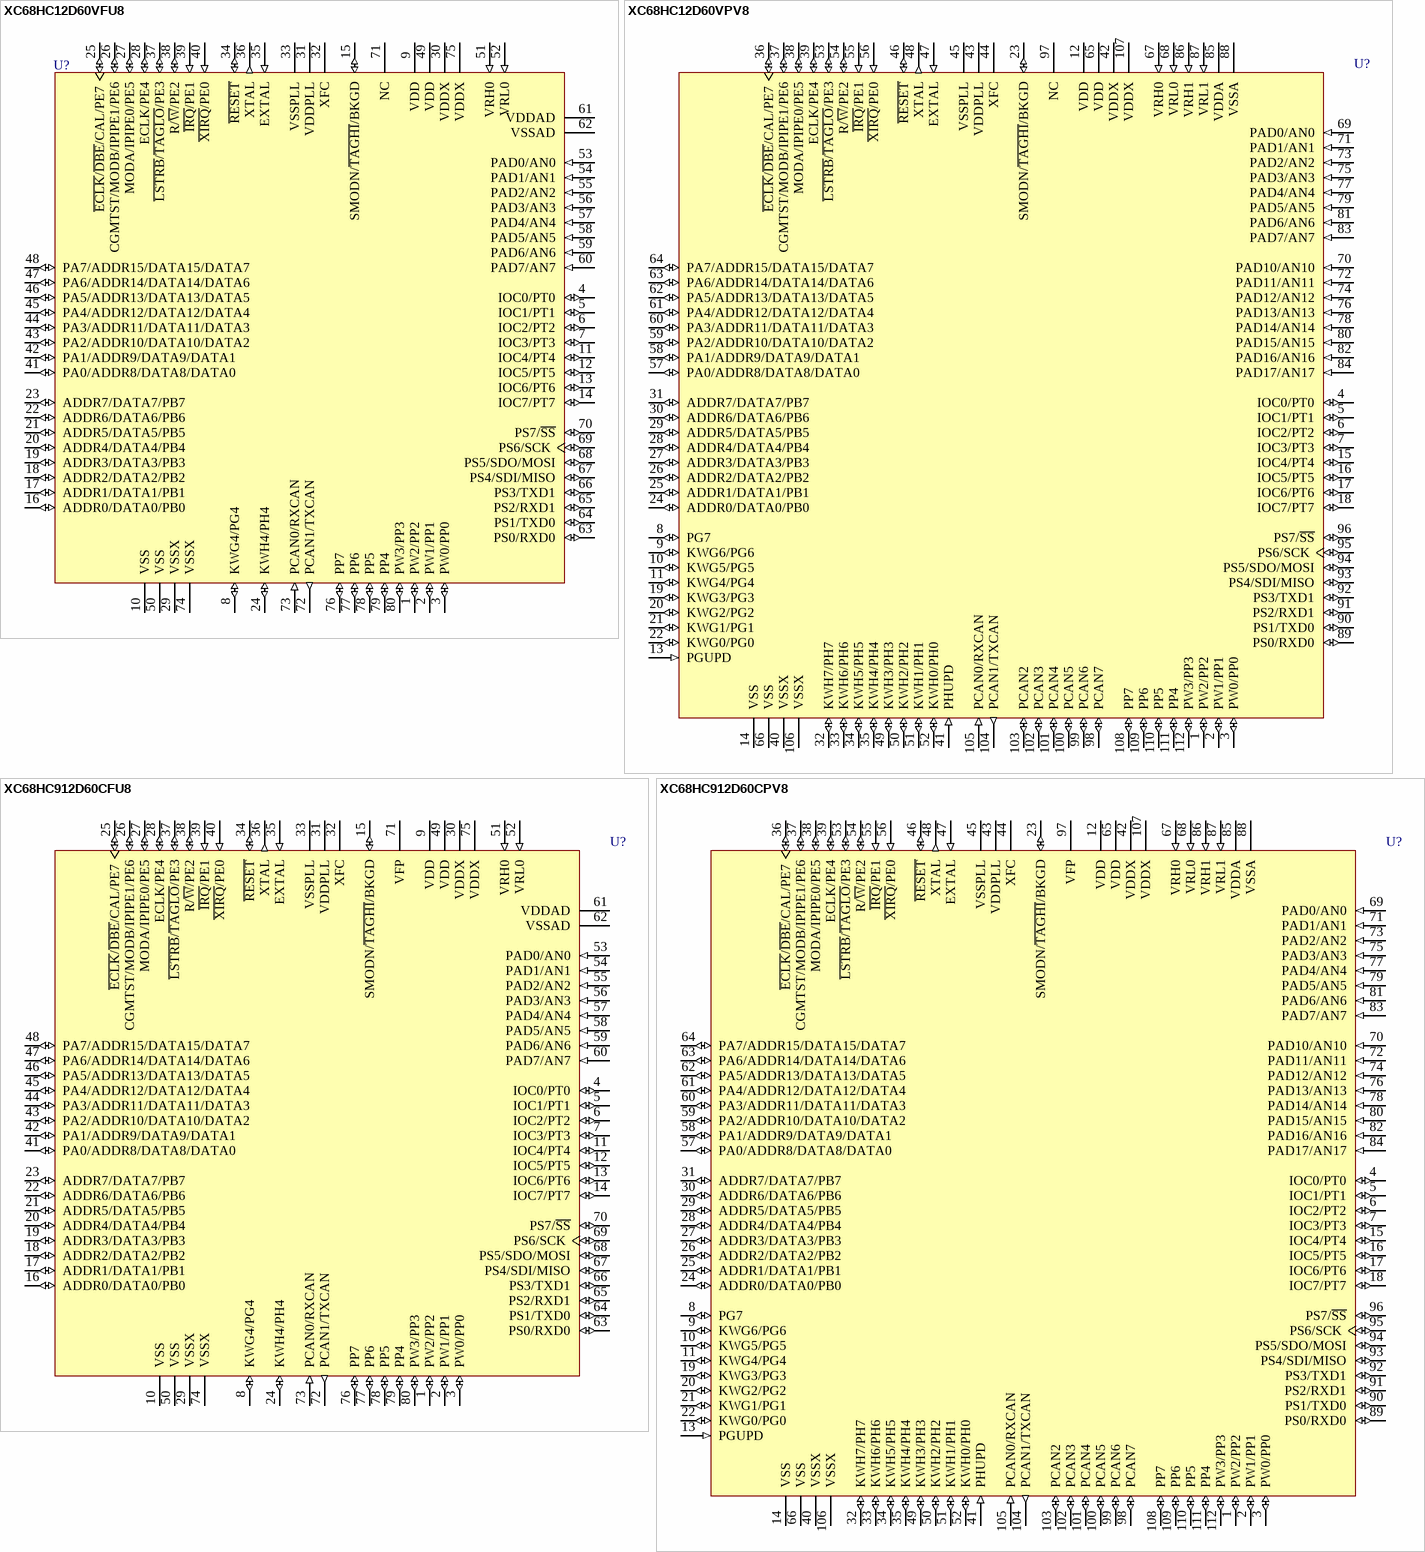
[diagram p138: symbols XC68HC12D60VFU8 to XC68HC912D60CPV8]

## XC68HC12D60VFU8
designator U?
16-Bit Microcontroller; PackageDocument: 2000; Published: 21-Mar-2003; LatestRevisionDate: 6-Jun-2005; LatestRevisionNote: Stylized 3D Model Added.; DatasheetDocument: Jul-2002; PackageReference: 841B; Publisher: Altium Limited; Code_IPC: QFP14X14-80; ComponentLink1Description: Manufacturer Link; ComponentLink1URL: http://www.freescale.com/; ComponentLink2Description: Datasheet; ComponentLink2URL: http://www.freescale.com/files/microcontrollers/doc/data_sheet/MC68HC912D60.pdf
footprint 841B (Plastic QFP; 80 Leads; Body 14 x 14 mm; Pitch 0.65 mm)
3D model XC68HC12-841B (Plastic QFP; 80 Leads; Body 14 x 14 mm; Pitch 0.65 mm)
pins: 1 PW2/PP2 (io), 2 PW1/PP1 (io), 3 PW0/PP0 (io), 4 IOC0/PT0 (io), 5 IOC1/PT1 (io), 6 IOC2/PT2 (io), 7 IOC3/PT3 (io), 8 KWG4/PG4 (io), 9 VDD (power), 10 VSS (power), 11 IOC4/PT4 (io), 12 IOC5/PT5 (io), 13 IOC6/PT6 (io), 14 IOC7/PT7 (io), 15 SMODN/~{TAGHI}/BKGD (io), 16 ADDR0/DATA0/PB0 (io), 17 ADDR1/DATA1/PB1 (io), 18 ADDR2/DATA2/PB2 (io), 19 ADDR3/DATA3/PB3 (io), 20 ADDR4/DATA4/PB4 (io), 21 ADDR5/DATA5/PB5 (io), 22 ADDR6/DATA6/PB6 (io), 23 ADDR7/DATA7/PB7 (io), 24 KWH4/PH4 (io), 25 ~{ECLK}/~{DBE}/CAL/PE7 (io), 26 CGMTST/MODB/IPIPE1/PE6 (io), 27 MODA/IPIPE0/PE5 (io), 28 ECLK/PE4 (io), 29 VSSX (power), 30 VDDX (power), 31 VDDPLL (power), 32 XFC, 33 VSSPLL (power), 34 ~{RESET} (io), 35 EXTAL (in), 36 XTAL (out), 37 ~{LSTRB}/~{TAGLO}/PE3 (io), 38 R/~{W}/PE2 (io), 39 ~{IRQ}/PE1 (in), 40 ~{XIRQ}/PE0 (in), 41 PA0/ADDR8/DATA8/DATA0 (io), 42 PA1/ADDR9/DATA9/DATA1 (io), 43 PA2/ADDR10/DATA10/DATA2 (io), 44 PA3/ADDR11/DATA11/DATA3 (io), 45 PA4/ADDR12/DATA12/DATA4 (io), 46 PA5/ADDR13/DATA13/DATA5 (io), 47 PA6/ADDR14/DATA14/DATA6 (io), 48 PA7/ADDR15/DATA15/DATA7 (io), 49 VDD (power), 50 VSS (power), 51 VRH0 (in), 52 VRL0 (in), 53 PAD0/AN0 (in), 54 PAD1/AN1 (in), 55 PAD2/AN2 (in), 56 PAD3/AN3 (in), 57 PAD4/AN4 (in), 58 PAD5/AN5 (in), 59 PAD6/AN6 (in), 60 PAD7/AN7 (in), 61 VDDAD (power), 62 VSSAD (power), 63 PS0/RXD0 (io), 64 PS1/TXD0 (io), 65 PS2/RXD1 (io), 66 PS3/TXD1 (io), 67 PS4/SDI/MISO (io), 68 PS5/SDO/MOSI (io), 69 PS6/SCK (io), 70 PS7/~{SS} (io), 71 NC, 72 PCAN1/TXCAN (out), 73 PCAN0/RXCAN (in), 74 VSSX (power), 75 VDDX (power), 76 PP7 (io), 77 PP6 (io), 78 PP5 (io), 79 PP4 (io), 80 PW3/PP3 (io)

## XC68HC12D60VPV8
designator U?
16-Bit Microcontroller; PackageDocument: rev3.1, Nov-2000; Published: 21-Mar-2003; LatestRevisionDate: 6-Jun-2005; LatestRevisionNote: Stylized 3D Model Added.; DatasheetDocument: Jul-2002; PackageReference: 987-01; Publisher: Altium Limited; ComponentLink1Description: Manufacturer Link; ComponentLink1URL: http://www.freescale.com/; ComponentLink2Description: Datasheet; ComponentLink2URL: http://www.freescale.com/files/microcontrollers/doc/data_sheet/MC68HC912D60.pdf
footprint 987-01 (QFP; 112 Leads; Body 20 x 20 mm; Pitch 0.65 mm)
3D model XC68HC12-987-01 (QFP; 112 Leads; Body 20 x 20 mm; Pitch 0.65 mm)
pins: 1 PW2/PP2 (io), 2 PW1/PP1 (io), 3 PW0/PP0 (io), 4 IOC0/PT0 (io), 5 IOC1/PT1 (io), 6 IOC2/PT2 (io), 7 IOC3/PT3 (io), 8 PG7 (io), 9 KWG6/PG6 (io), 10 KWG5/PG5 (io), 11 KWG4/PG4 (io), 12 VDD (power), 13 PGUPD (in), 14 VSS (power), 15 IOC4/PT4 (io), 16 IOC5/PT5 (io), 17 IOC6/PT6 (io), 18 IOC7/PT7 (io), 19 KWG3/PG3 (io), 20 KWG2/PG2 (io), 21 KWG1/PG1 (io), 22 KWG0/PG0 (io), 23 SMODN/~{TAGHI}/BKGD (io), 24 ADDR0/DATA0/PB0 (io), 25 ADDR1/DATA1/PB1 (io), 26 ADDR2/DATA2/PB2 (io), 27 ADDR3/DATA3/PB3 (io), 28 ADDR4/DATA4/PB4 (io), 29 ADDR5/DATA5/PB5 (io), 30 ADDR6/DATA6/PB6 (io), 31 ADDR7/DATA7/PB7 (io), 32 KWH7/PH7 (io), 33 KWH6/PH6 (io), 34 KWH5/PH5 (io), 35 KWH4/PH4 (io), 36 ~{ECLK}/~{DBE}/CAL/PE7 (io), 37 CGMTST/MODB/IPIPE1/PE6 (io), 38 MODA/IPIPE0/PE5 (io), 39 ECLK/PE4 (io), 40 VSSX (power), 41 PHUPD (in), 42 VDDX (power), 43 VDDPLL (power), 44 XFC, 45 VSSPLL (power), 46 ~{RESET} (io), 47 EXTAL (in), 48 XTAL (out), 49 KWH3/PH3 (io), 50 KWH2/PH2 (io), 51 KWH1/PH1 (io), 52 KWH0/PH0 (io), 53 ~{LSTRB}/~{TAGLO}/PE3 (io), 54 R/~{W}/PE2 (io), 55 ~{IRQ}/PE1 (in), 56 ~{XIRQ}/PE0 (in), 57 PA0/ADDR8/DATA8/DATA0 (io), 58 PA1/ADDR9/DATA9/DATA1 (io), 59 PA2/ADDR10/DATA10/DATA2 (io), 60 PA3/ADDR11/DATA11/DATA3 (io), 61 PA4/ADDR12/DATA12/DATA4 (io), 62 PA5/ADDR13/DATA13/DATA5 (io), 63 PA6/ADDR14/DATA14/DATA6 (io), 64 PA7/ADDR15/DATA15/DATA7 (io), 65 VDD (power), 66 VSS (power), 67 VRH0 (in), 68 VRL0 (in), 69 PAD0/AN0 (in), 70 PAD10/AN10 (in), 71 PAD1/AN1 (in), 72 PAD11/AN11 (in), 73 PAD2/AN2 (in), 74 PAD12/AN12 (in), 75 PAD3/AN3 (in), 76 PAD13/AN13 (in), 77 PAD4/AN4 (in), 78 PAD14/AN14 (in), 79 PAD5/AN5 (in), 80 PAD15/AN15 (in), 81 PAD6/AN6 (in), 82 PAD16/AN16 (in), 83 PAD7/AN7 (in), 84 PAD17/AN17 (in), 85 VDDA (power), 86 VRH1 (in), 87 VRL1 (in), 88 VSSA (power), 89 PS0/RXD0 (io), 90 PS1/TXD0 (io), 91 PS2/RXD1 (io), 92 PS3/TXD1 (io), 93 PS4/SDI/MISO (io), 94 PS5/SDO/MOSI (io), 95 PS6/SCK (io), 96 PS7/~{SS} (io), 97 NC, 98 PCAN7 (io), 99 PCAN6 (io), 100 PCAN5 (io), 101 PCAN4 (io), 102 PCAN3 (io), 103 PCAN2 (io), 104 PCAN1/TXCAN (out), 105 PCAN0/RXCAN (in), 106 VSSX (power), 107 VDDX (power), 108 PP7 (io), 109 PP6 (io), 110 PP5 (io), 111 PP4 (io), 112 PW3/PP3 (io)

## XC68HC912D60CFU8
designator U?
16-Bit Microcontroller; PackageDocument: 2000; Published: 21-Mar-2003; LatestRevisionDate: 6-Jun-2005; LatestRevisionNote: Stylized 3D Model Added.; DatasheetDocument: Jul-2002; PackageReference: 841B; Publisher: Altium Limited; Code_IPC: QFP14X14-80; ComponentLink1Description: Manufacturer Link; ComponentLink1URL: http://www.freescale.com/; ComponentLink2Description: Datasheet; ComponentLink2URL: http://www.freescale.com/files/microcontrollers/doc/data_sheet/MC68HC912D60.pdf
footprint 841B (Plastic QFP; 80 Leads; Body 14 x 14 mm; Pitch 0.65 mm)
3D model XC68HC912-841B (Plastic QFP; 80 Leads; Body 14 x 14 mm; Pitch 0.65 mm)
pins: 1 PW2/PP2 (io), 2 PW1/PP1 (io), 3 PW0/PP0 (io), 4 IOC0/PT0 (io), 5 IOC1/PT1 (io), 6 IOC2/PT2 (io), 7 IOC3/PT3 (io), 8 KWG4/PG4 (io), 9 VDD (power), 10 VSS (power), 11 IOC4/PT4 (io), 12 IOC5/PT5 (io), 13 IOC6/PT6 (io), 14 IOC7/PT7 (io), 15 SMODN/~{TAGHI}/BKGD (io), 16 ADDR0/DATA0/PB0 (io), 17 ADDR1/DATA1/PB1 (io), 18 ADDR2/DATA2/PB2 (io), 19 ADDR3/DATA3/PB3 (io), 20 ADDR4/DATA4/PB4 (io), 21 ADDR5/DATA5/PB5 (io), 22 ADDR6/DATA6/PB6 (io), 23 ADDR7/DATA7/PB7 (io), 24 KWH4/PH4 (io), 25 ~{ECLK}/~{DBE}/CAL/PE7 (io), 26 CGMTST/MODB/IPIPE1/PE6 (io), 27 MODA/IPIPE0/PE5 (io), 28 ECLK/PE4 (io), 29 VSSX (power), 30 VDDX (power), 31 VDDPLL (power), 32 XFC, 33 VSSPLL (power), 34 ~{RESET} (io), 35 EXTAL (in), 36 XTAL (out), 37 ~{LSTRB}/~{TAGLO}/PE3 (io), 38 R/~{W}/PE2 (io), 39 ~{IRQ}/PE1 (in), 40 ~{XIRQ}/PE0 (in), 41 PA0/ADDR8/DATA8/DATA0 (io), 42 PA1/ADDR9/DATA9/DATA1 (io), 43 PA2/ADDR10/DATA10/DATA2 (io), 44 PA3/ADDR11/DATA11/DATA3 (io), 45 PA4/ADDR12/DATA12/DATA4 (io), 46 PA5/ADDR13/DATA13/DATA5 (io), 47 PA6/ADDR14/DATA14/DATA6 (io), 48 PA7/ADDR15/DATA15/DATA7 (io), 49 VDD (power), 50 VSS (power), 51 VRH0 (in), 52 VRL0 (in), 53 PAD0/AN0 (in), 54 PAD1/AN1 (in), 55 PAD2/AN2 (in), 56 PAD3/AN3 (in), 57 PAD4/AN4 (in), 58 PAD5/AN5 (in), 59 PAD6/AN6 (in), 60 PAD7/AN7 (in), 61 VDDAD (power), 62 VSSAD (power), 63 PS0/RXD0 (io), 64 PS1/TXD0 (io), 65 PS2/RXD1 (io), 66 PS3/TXD1 (io), 67 PS4/SDI/MISO (io), 68 PS5/SDO/MOSI (io), 69 PS6/SCK (io), 70 PS7/~{SS} (io), 71 VFP (power), 72 PCAN1/TXCAN (out), 73 PCAN0/RXCAN (in), 74 VSSX (power), 75 VDDX (power), 76 PP7 (io), 77 PP6 (io), 78 PP5 (io), 79 PP4 (io), 80 PW3/PP3 (io)

## XC68HC912D60CPV8
designator U?
16-Bit Microcontroller; PackageDocument: rev3.1, Nov-2000; Published: 21-Mar-2003; LatestRevisionDate: 6-Jun-2005; LatestRevisionNote: Stylized 3D Model Added.; DatasheetDocument: Jul-2002; PackageReference: 987-01; Publisher: Altium Limited; ComponentLink1Description: Manufacturer Link; ComponentLink1URL: http://www.freescale.com/; ComponentLink2Description: Datasheet; ComponentLink2URL: http://www.freescale.com/files/microcontrollers/doc/data_sheet/MC68HC912D60.pdf
footprint 987-01 (QFP; 112 Leads; Body 20 x 20 mm; Pitch 0.65 mm)
3D model XC68HC912-987-01 (QFP; 112 Leads; Body 20 x 20 mm; Pitch 0.65 mm)
pins: 1 PW2/PP2 (io), 2 PW1/PP1 (io), 3 PW0/PP0 (io), 4 IOC0/PT0 (io), 5 IOC1/PT1 (io), 6 IOC2/PT2 (io), 7 IOC3/PT3 (io), 8 PG7 (io), 9 KWG6/PG6 (io), 10 KWG5/PG5 (io), 11 KWG4/PG4 (io), 12 VDD (power), 13 PGUPD (in), 14 VSS (power), 15 IOC4/PT4 (io), 16 IOC5/PT5 (io), 17 IOC6/PT6 (io), 18 IOC7/PT7 (io), 19 KWG3/PG3 (io), 20 KWG2/PG2 (io), 21 KWG1/PG1 (io), 22 KWG0/PG0 (io), 23 SMODN/~{TAGHI}/BKGD (io), 24 ADDR0/DATA0/PB0 (io), 25 ADDR1/DATA1/PB1 (io), 26 ADDR2/DATA2/PB2 (io), 27 ADDR3/DATA3/PB3 (io), 28 ADDR4/DATA4/PB4 (io), 29 ADDR5/DATA5/PB5 (io), 30 ADDR6/DATA6/PB6 (io), 31 ADDR7/DATA7/PB7 (io), 32 KWH7/PH7 (io), 33 KWH6/PH6 (io), 34 KWH5/PH5 (io), 35 KWH4/PH4 (io), 36 ~{ECLK}/~{DBE}/CAL/PE7 (io), 37 CGMTST/MODB/IPIPE1/PE6 (io), 38 MODA/IPIPE0/PE5 (io), 39 ECLK/PE4 (io), 40 VSSX (power), 41 PHUPD (in), 42 VDDX (power), 43 VDDPLL (power), 44 XFC, 45 VSSPLL (power), 46 ~{RESET} (io), 47 EXTAL (in), 48 XTAL (out), 49 KWH3/PH3 (io), 50 KWH2/PH2 (io), 51 KWH1/PH1 (io), 52 KWH0/PH0 (io), 53 ~{LSTRB}/~{TAGLO}/PE3 (io), 54 R/~{W}/PE2 (io), 55 ~{IRQ}/PE1 (in), 56 ~{XIRQ}/PE0 (in), 57 PA0/ADDR8/DATA8/DATA0 (io), 58 PA1/ADDR9/DATA9/DATA1 (io), 59 PA2/ADDR10/DATA10/DATA2 (io), 60 PA3/ADDR11/DATA11/DATA3 (io), 61 PA4/ADDR12/DATA12/DATA4 (io), 62 PA5/ADDR13/DATA13/DATA5 (io), 63 PA6/ADDR14/DATA14/DATA6 (io), 64 PA7/ADDR15/DATA15/DATA7 (io), 65 VDD (power), 66 VSS (power), 67 VRH0 (in), 68 VRL0 (in), 69 PAD0/AN0 (in), 70 PAD10/AN10 (in), 71 PAD1/AN1 (in), 72 PAD11/AN11 (in), 73 PAD2/AN2 (in), 74 PAD12/AN12 (in), 75 PAD3/AN3 (in), 76 PAD13/AN13 (in), 77 PAD4/AN4 (in), 78 PAD14/AN14 (in), 79 PAD5/AN5 (in), 80 PAD15/AN15 (in), 81 PAD6/AN6 (in), 82 PAD16/AN16 (in), 83 PAD7/AN7 (in), 84 PAD17/AN17 (in), 85 VDDA (power), 86 VRH1 (in), 87 VRL1 (in), 88 VSSA (power), 89 PS0/RXD0 (io), 90 PS1/TXD0 (io), 91 PS2/RXD1 (io), 92 PS3/TXD1 (io), 93 PS4/SDI/MISO (io), 94 PS5/SDO/MOSI (io), 95 PS6/SCK (io), 96 PS7/~{SS} (io), 97 VFP (power), 98 PCAN7 (io), 99 PCAN6 (io), 100 PCAN5 (io), 101 PCAN4 (io), 102 PCAN3 (io), 103 PCAN2 (io), 104 PCAN1/TXCAN (out), 105 PCAN0/RXCAN (in), 106 VSSX (power), 107 VDDX (power), 108 PP7 (io), 109 PP6 (io), 110 PP5 (io), 111 PP4 (io), 112 PW3/PP3 (io)

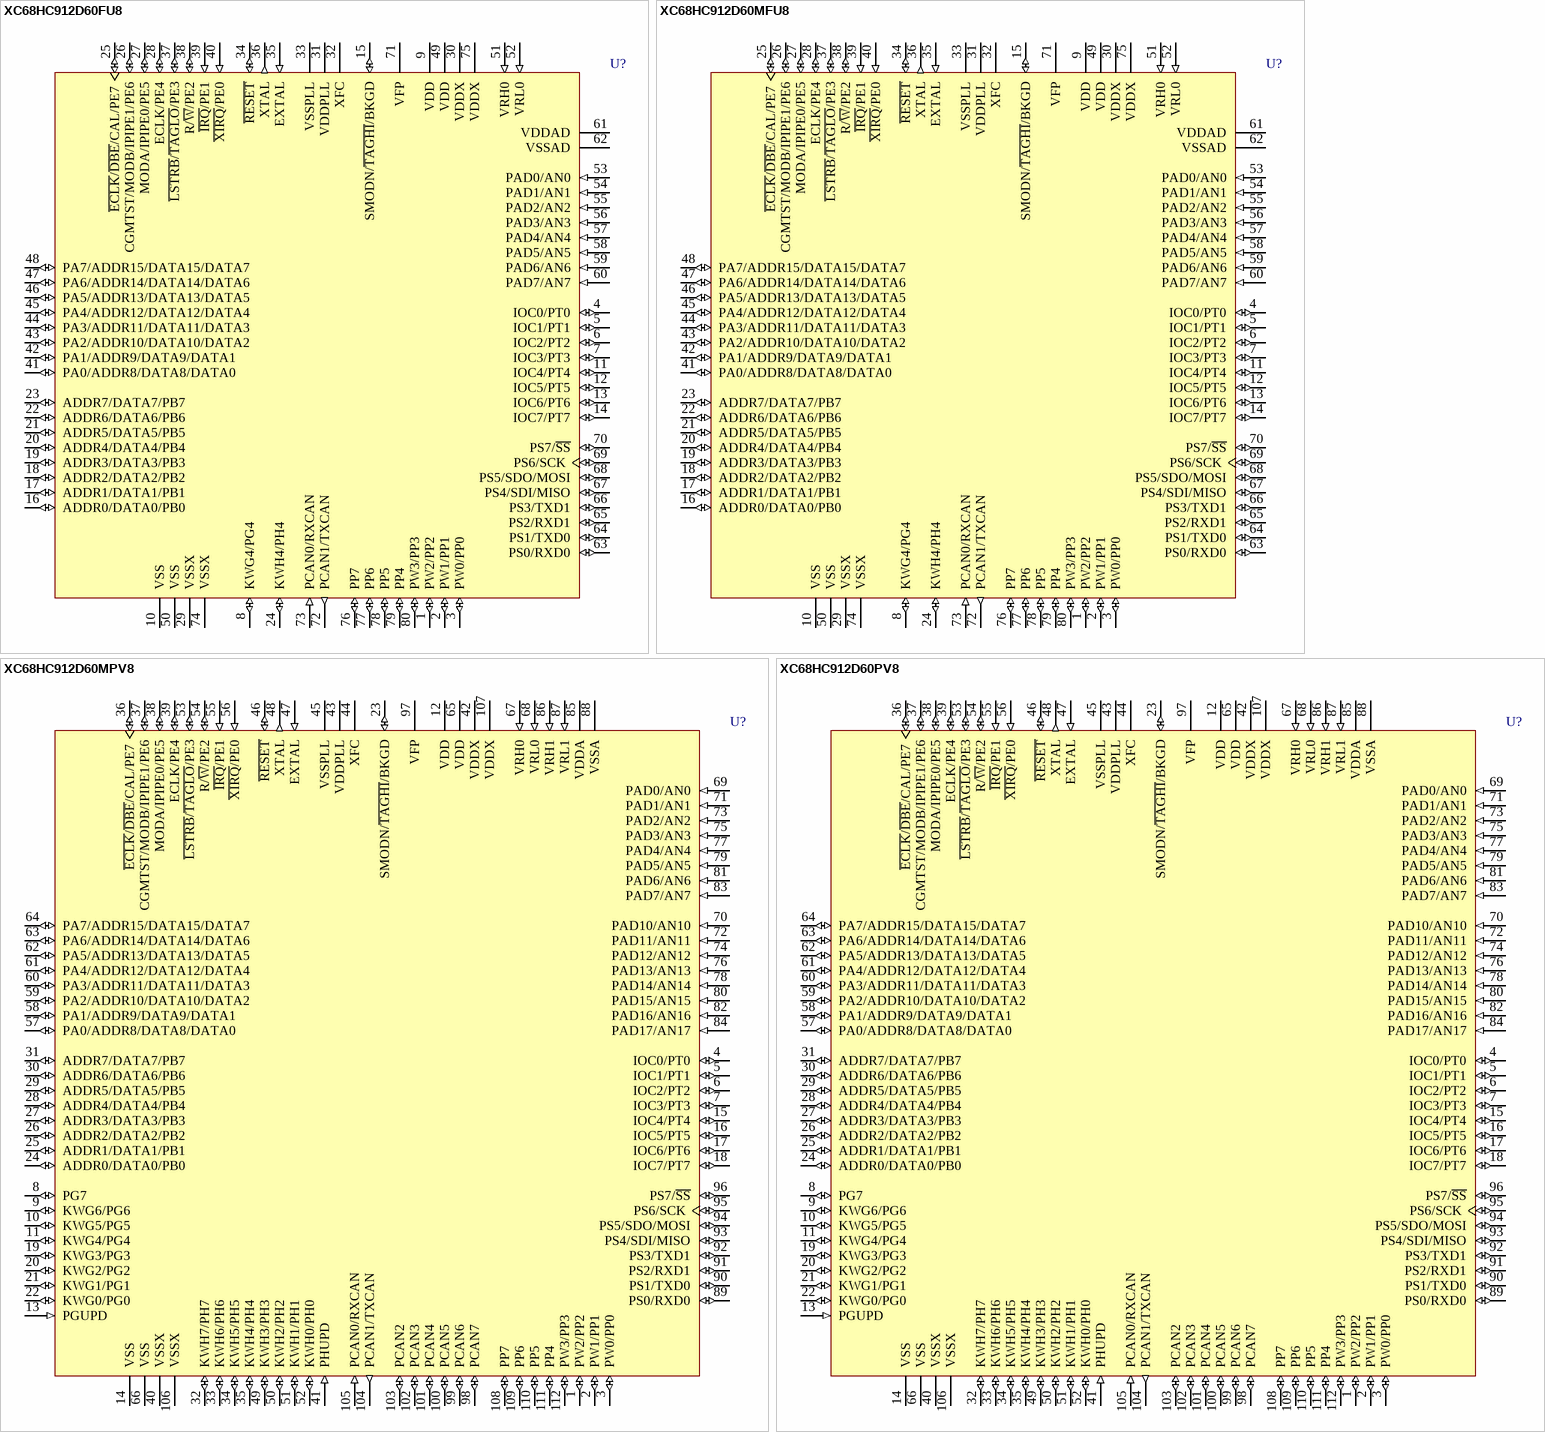
[diagram p139: symbols XC68HC912D60FU8 to XC68HC912D60PV8]

## XC68HC912D60FU8
designator U?
16-Bit Microcontroller; PackageDocument: 2000; Published: 21-Mar-2003; LatestRevisionDate: 6-Jun-2005; LatestRevisionNote: Stylized 3D Model Added.; DatasheetDocument: Jul-2002; PackageReference: 841B; Publisher: Altium Limited; Code_IPC: QFP14X14-80; ComponentLink1Description: Manufacturer Link; ComponentLink1URL: http://www.freescale.com/; ComponentLink2Description: Datasheet; ComponentLink2URL: http://www.freescale.com/files/microcontrollers/doc/data_sheet/MC68HC912D60.pdf
footprint 841B (Plastic QFP; 80 Leads; Body 14 x 14 mm; Pitch 0.65 mm)
3D model XC68HC912-841B (Plastic QFP; 80 Leads; Body 14 x 14 mm; Pitch 0.65 mm)
pins: 1 PW2/PP2 (io), 2 PW1/PP1 (io), 3 PW0/PP0 (io), 4 IOC0/PT0 (io), 5 IOC1/PT1 (io), 6 IOC2/PT2 (io), 7 IOC3/PT3 (io), 8 KWG4/PG4 (io), 9 VDD (power), 10 VSS (power), 11 IOC4/PT4 (io), 12 IOC5/PT5 (io), 13 IOC6/PT6 (io), 14 IOC7/PT7 (io), 15 SMODN/~{TAGHI}/BKGD (io), 16 ADDR0/DATA0/PB0 (io), 17 ADDR1/DATA1/PB1 (io), 18 ADDR2/DATA2/PB2 (io), 19 ADDR3/DATA3/PB3 (io), 20 ADDR4/DATA4/PB4 (io), 21 ADDR5/DATA5/PB5 (io), 22 ADDR6/DATA6/PB6 (io), 23 ADDR7/DATA7/PB7 (io), 24 KWH4/PH4 (io), 25 ~{ECLK}/~{DBE}/CAL/PE7 (io), 26 CGMTST/MODB/IPIPE1/PE6 (io), 27 MODA/IPIPE0/PE5 (io), 28 ECLK/PE4 (io), 29 VSSX (power), 30 VDDX (power), 31 VDDPLL (power), 32 XFC, 33 VSSPLL (power), 34 ~{RESET} (io), 35 EXTAL (in), 36 XTAL (out), 37 ~{LSTRB}/~{TAGLO}/PE3 (io), 38 R/~{W}/PE2 (io), 39 ~{IRQ}/PE1 (in), 40 ~{XIRQ}/PE0 (in), 41 PA0/ADDR8/DATA8/DATA0 (io), 42 PA1/ADDR9/DATA9/DATA1 (io), 43 PA2/ADDR10/DATA10/DATA2 (io), 44 PA3/ADDR11/DATA11/DATA3 (io), 45 PA4/ADDR12/DATA12/DATA4 (io), 46 PA5/ADDR13/DATA13/DATA5 (io), 47 PA6/ADDR14/DATA14/DATA6 (io), 48 PA7/ADDR15/DATA15/DATA7 (io), 49 VDD (power), 50 VSS (power), 51 VRH0 (in), 52 VRL0 (in), 53 PAD0/AN0 (in), 54 PAD1/AN1 (in), 55 PAD2/AN2 (in), 56 PAD3/AN3 (in), 57 PAD4/AN4 (in), 58 PAD5/AN5 (in), 59 PAD6/AN6 (in), 60 PAD7/AN7 (in), 61 VDDAD (power), 62 VSSAD (power), 63 PS0/RXD0 (io), 64 PS1/TXD0 (io), 65 PS2/RXD1 (io), 66 PS3/TXD1 (io), 67 PS4/SDI/MISO (io), 68 PS5/SDO/MOSI (io), 69 PS6/SCK (io), 70 PS7/~{SS} (io), 71 VFP (power), 72 PCAN1/TXCAN (out), 73 PCAN0/RXCAN (in), 74 VSSX (power), 75 VDDX (power), 76 PP7 (io), 77 PP6 (io), 78 PP5 (io), 79 PP4 (io), 80 PW3/PP3 (io)

## XC68HC912D60MFU8
designator U?
16-Bit Microcontroller; PackageDocument: 2000; Note: M Temperature Operation only available for single chip modes.; Published: 21-Mar-2003; LatestRevisionDate: 6-Jun-2005; LatestRevisionNote: Stylized 3D Model Added.; DatasheetDocument: Jul-2002; PackageReference: 841B; Publisher: Altium Limited; Code_IPC: QFP14X14-80; ComponentLink1Description: Manufacturer Link; ComponentLink1URL: http://www.freescale.com/; ComponentLink2Description: Datasheet; ComponentLink2URL: http://www.freescale.com/files/microcontrollers/doc/data_sheet/MC68HC912D60.pdf
footprint 841B (Plastic QFP; 80 Leads; Body 14 x 14 mm; Pitch 0.65 mm)
3D model XC68HC912-841B (Plastic QFP; 80 Leads; Body 14 x 14 mm; Pitch 0.65 mm)
pins: 1 PW2/PP2 (io), 2 PW1/PP1 (io), 3 PW0/PP0 (io), 4 IOC0/PT0 (io), 5 IOC1/PT1 (io), 6 IOC2/PT2 (io), 7 IOC3/PT3 (io), 8 KWG4/PG4 (io), 9 VDD (power), 10 VSS (power), 11 IOC4/PT4 (io), 12 IOC5/PT5 (io), 13 IOC6/PT6 (io), 14 IOC7/PT7 (io), 15 SMODN/~{TAGHI}/BKGD (io), 16 ADDR0/DATA0/PB0 (io), 17 ADDR1/DATA1/PB1 (io), 18 ADDR2/DATA2/PB2 (io), 19 ADDR3/DATA3/PB3 (io), 20 ADDR4/DATA4/PB4 (io), 21 ADDR5/DATA5/PB5 (io), 22 ADDR6/DATA6/PB6 (io), 23 ADDR7/DATA7/PB7 (io), 24 KWH4/PH4 (io), 25 ~{ECLK}/~{DBE}/CAL/PE7 (io), 26 CGMTST/MODB/IPIPE1/PE6 (io), 27 MODA/IPIPE0/PE5 (io), 28 ECLK/PE4 (io), 29 VSSX (power), 30 VDDX (power), 31 VDDPLL (power), 32 XFC, 33 VSSPLL (power), 34 ~{RESET} (io), 35 EXTAL (in), 36 XTAL (out), 37 ~{LSTRB}/~{TAGLO}/PE3 (io), 38 R/~{W}/PE2 (io), 39 ~{IRQ}/PE1 (in), 40 ~{XIRQ}/PE0 (in), 41 PA0/ADDR8/DATA8/DATA0 (io), 42 PA1/ADDR9/DATA9/DATA1 (io), 43 PA2/ADDR10/DATA10/DATA2 (io), 44 PA3/ADDR11/DATA11/DATA3 (io), 45 PA4/ADDR12/DATA12/DATA4 (io), 46 PA5/ADDR13/DATA13/DATA5 (io), 47 PA6/ADDR14/DATA14/DATA6 (io), 48 PA7/ADDR15/DATA15/DATA7 (io), 49 VDD (power), 50 VSS (power), 51 VRH0 (in), 52 VRL0 (in), 53 PAD0/AN0 (in), 54 PAD1/AN1 (in), 55 PAD2/AN2 (in), 56 PAD3/AN3 (in), 57 PAD4/AN4 (in), 58 PAD5/AN5 (in), 59 PAD6/AN6 (in), 60 PAD7/AN7 (in), 61 VDDAD (power), 62 VSSAD (power), 63 PS0/RXD0 (io), 64 PS1/TXD0 (io), 65 PS2/RXD1 (io), 66 PS3/TXD1 (io), 67 PS4/SDI/MISO (io), 68 PS5/SDO/MOSI (io), 69 PS6/SCK (io), 70 PS7/~{SS} (io), 71 VFP (power), 72 PCAN1/TXCAN (out), 73 PCAN0/RXCAN (in), 74 VSSX (power), 75 VDDX (power), 76 PP7 (io), 77 PP6 (io), 78 PP5 (io), 79 PP4 (io), 80 PW3/PP3 (io)

## XC68HC912D60MPV8
designator U?
16-Bit Microcontroller; PackageDocument: rev3.1, Nov-2000; Note: M Temperature Operation only available for single chip modes.; Published: 21-Mar-2003; LatestRevisionDate: 6-Jun-2005; LatestRevisionNote: Stylized 3D Model Added.; DatasheetDocument: Jul-2002; PackageReference: 987-01; Publisher: Altium Limited; ComponentLink1Description: Manufacturer Link; ComponentLink1URL: http://www.freescale.com/; ComponentLink2Description: Datasheet; ComponentLink2URL: http://www.freescale.com/files/microcontrollers/doc/data_sheet/MC68HC912D60.pdf
footprint 987-01 (QFP; 112 Leads; Body 20 x 20 mm; Pitch 0.65 mm)
3D model XC68HC912-987-01 (QFP; 112 Leads; Body 20 x 20 mm; Pitch 0.65 mm)
pins: 1 PW2/PP2 (io), 2 PW1/PP1 (io), 3 PW0/PP0 (io), 4 IOC0/PT0 (io), 5 IOC1/PT1 (io), 6 IOC2/PT2 (io), 7 IOC3/PT3 (io), 8 PG7 (io), 9 KWG6/PG6 (io), 10 KWG5/PG5 (io), 11 KWG4/PG4 (io), 12 VDD (power), 13 PGUPD (in), 14 VSS (power), 15 IOC4/PT4 (io), 16 IOC5/PT5 (io), 17 IOC6/PT6 (io), 18 IOC7/PT7 (io), 19 KWG3/PG3 (io), 20 KWG2/PG2 (io), 21 KWG1/PG1 (io), 22 KWG0/PG0 (io), 23 SMODN/~{TAGHI}/BKGD (io), 24 ADDR0/DATA0/PB0 (io), 25 ADDR1/DATA1/PB1 (io), 26 ADDR2/DATA2/PB2 (io), 27 ADDR3/DATA3/PB3 (io), 28 ADDR4/DATA4/PB4 (io), 29 ADDR5/DATA5/PB5 (io), 30 ADDR6/DATA6/PB6 (io), 31 ADDR7/DATA7/PB7 (io), 32 KWH7/PH7 (io), 33 KWH6/PH6 (io), 34 KWH5/PH5 (io), 35 KWH4/PH4 (io), 36 ~{ECLK}/~{DBE}/CAL/PE7 (io), 37 CGMTST/MODB/IPIPE1/PE6 (io), 38 MODA/IPIPE0/PE5 (io), 39 ECLK/PE4 (io), 40 VSSX (power), 41 PHUPD (in), 42 VDDX (power), 43 VDDPLL (power), 44 XFC, 45 VSSPLL (power), 46 ~{RESET} (io), 47 EXTAL (in), 48 XTAL (out), 49 KWH3/PH3 (io), 50 KWH2/PH2 (io), 51 KWH1/PH1 (io), 52 KWH0/PH0 (io), 53 ~{LSTRB}/~{TAGLO}/PE3 (io), 54 R/~{W}/PE2 (io), 55 ~{IRQ}/PE1 (in), 56 ~{XIRQ}/PE0 (in), 57 PA0/ADDR8/DATA8/DATA0 (io), 58 PA1/ADDR9/DATA9/DATA1 (io), 59 PA2/ADDR10/DATA10/DATA2 (io), 60 PA3/ADDR11/DATA11/DATA3 (io), 61 PA4/ADDR12/DATA12/DATA4 (io), 62 PA5/ADDR13/DATA13/DATA5 (io), 63 PA6/ADDR14/DATA14/DATA6 (io), 64 PA7/ADDR15/DATA15/DATA7 (io), 65 VDD (power), 66 VSS (power), 67 VRH0 (in), 68 VRL0 (in), 69 PAD0/AN0 (in), 70 PAD10/AN10 (in), 71 PAD1/AN1 (in), 72 PAD11/AN11 (in), 73 PAD2/AN2 (in), 74 PAD12/AN12 (in), 75 PAD3/AN3 (in), 76 PAD13/AN13 (in), 77 PAD4/AN4 (in), 78 PAD14/AN14 (in), 79 PAD5/AN5 (in), 80 PAD15/AN15 (in), 81 PAD6/AN6 (in), 82 PAD16/AN16 (in), 83 PAD7/AN7 (in), 84 PAD17/AN17 (in), 85 VDDA (power), 86 VRH1 (in), 87 VRL1 (in), 88 VSSA (power), 89 PS0/RXD0 (io), 90 PS1/TXD0 (io), 91 PS2/RXD1 (io), 92 PS3/TXD1 (io), 93 PS4/SDI/MISO (io), 94 PS5/SDO/MOSI (io), 95 PS6/SCK (io), 96 PS7/~{SS} (io), 97 VFP (power), 98 PCAN7 (io), 99 PCAN6 (io), 100 PCAN5 (io), 101 PCAN4 (io), 102 PCAN3 (io), 103 PCAN2 (io), 104 PCAN1/TXCAN (out), 105 PCAN0/RXCAN (in), 106 VSSX (power), 107 VDDX (power), 108 PP7 (io), 109 PP6 (io), 110 PP5 (io), 111 PP4 (io), 112 PW3/PP3 (io)

## XC68HC912D60PV8
designator U?
16-Bit Microcontroller; PackageDocument: rev3.1, Nov-2000; Published: 21-Mar-2003; LatestRevisionDate: 6-Jun-2005; LatestRevisionNote: Stylized 3D Model Added.; DatasheetDocument: Jul-2002; PackageReference: 987-01; Publisher: Altium Limited; ComponentLink1Description: Manufacturer Link; ComponentLink1URL: http://www.freescale.com/; ComponentLink2Description: Datasheet; ComponentLink2URL: http://www.freescale.com/files/microcontrollers/doc/data_sheet/MC68HC912D60.pdf
footprint 987-01 (QFP; 112 Leads; Body 20 x 20 mm; Pitch 0.65 mm)
3D model XC68HC912-987-01 (QFP; 112 Leads; Body 20 x 20 mm; Pitch 0.65 mm)
pins: 1 PW2/PP2 (io), 2 PW1/PP1 (io), 3 PW0/PP0 (io), 4 IOC0/PT0 (io), 5 IOC1/PT1 (io), 6 IOC2/PT2 (io), 7 IOC3/PT3 (io), 8 PG7 (io), 9 KWG6/PG6 (io), 10 KWG5/PG5 (io), 11 KWG4/PG4 (io), 12 VDD (power), 13 PGUPD (in), 14 VSS (power), 15 IOC4/PT4 (io), 16 IOC5/PT5 (io), 17 IOC6/PT6 (io), 18 IOC7/PT7 (io), 19 KWG3/PG3 (io), 20 KWG2/PG2 (io), 21 KWG1/PG1 (io), 22 KWG0/PG0 (io), 23 SMODN/~{TAGHI}/BKGD (io), 24 ADDR0/DATA0/PB0 (io), 25 ADDR1/DATA1/PB1 (io), 26 ADDR2/DATA2/PB2 (io), 27 ADDR3/DATA3/PB3 (io), 28 ADDR4/DATA4/PB4 (io), 29 ADDR5/DATA5/PB5 (io), 30 ADDR6/DATA6/PB6 (io), 31 ADDR7/DATA7/PB7 (io), 32 KWH7/PH7 (io), 33 KWH6/PH6 (io), 34 KWH5/PH5 (io), 35 KWH4/PH4 (io), 36 ~{ECLK}/~{DBE}/CAL/PE7 (io), 37 CGMTST/MODB/IPIPE1/PE6 (io), 38 MODA/IPIPE0/PE5 (io), 39 ECLK/PE4 (io), 40 VSSX (power), 41 PHUPD (in), 42 VDDX (power), 43 VDDPLL (power), 44 XFC, 45 VSSPLL (power), 46 ~{RESET} (io), 47 EXTAL (in), 48 XTAL (out), 49 KWH3/PH3 (io), 50 KWH2/PH2 (io), 51 KWH1/PH1 (io), 52 KWH0/PH0 (io), 53 ~{LSTRB}/~{TAGLO}/PE3 (io), 54 R/~{W}/PE2 (io), 55 ~{IRQ}/PE1 (in), 56 ~{XIRQ}/PE0 (in), 57 PA0/ADDR8/DATA8/DATA0 (io), 58 PA1/ADDR9/DATA9/DATA1 (io), 59 PA2/ADDR10/DATA10/DATA2 (io), 60 PA3/ADDR11/DATA11/DATA3 (io), 61 PA4/ADDR12/DATA12/DATA4 (io), 62 PA5/ADDR13/DATA13/DATA5 (io), 63 PA6/ADDR14/DATA14/DATA6 (io), 64 PA7/ADDR15/DATA15/DATA7 (io), 65 VDD (power), 66 VSS (power), 67 VRH0 (in), 68 VRL0 (in), 69 PAD0/AN0 (in), 70 PAD10/AN10 (in), 71 PAD1/AN1 (in), 72 PAD11/AN11 (in), 73 PAD2/AN2 (in), 74 PAD12/AN12 (in), 75 PAD3/AN3 (in), 76 PAD13/AN13 (in), 77 PAD4/AN4 (in), 78 PAD14/AN14 (in), 79 PAD5/AN5 (in), 80 PAD15/AN15 (in), 81 PAD6/AN6 (in), 82 PAD16/AN16 (in), 83 PAD7/AN7 (in), 84 PAD17/AN17 (in), 85 VDDA (power), 86 VRH1 (in), 87 VRL1 (in), 88 VSSA (power), 89 PS0/RXD0 (io), 90 PS1/TXD0 (io), 91 PS2/RXD1 (io), 92 PS3/TXD1 (io), 93 PS4/SDI/MISO (io), 94 PS5/SDO/MOSI (io), 95 PS6/SCK (io), 96 PS7/~{SS} (io), 97 VFP (power), 98 PCAN7 (io), 99 PCAN6 (io), 100 PCAN5 (io), 101 PCAN4 (io), 102 PCAN3 (io), 103 PCAN2 (io), 104 PCAN1/TXCAN (out), 105 PCAN0/RXCAN (in), 106 VSSX (power), 107 VDDX (power), 108 PP7 (io), 109 PP6 (io), 110 PP5 (io), 111 PP4 (io), 112 PW3/PP3 (io)

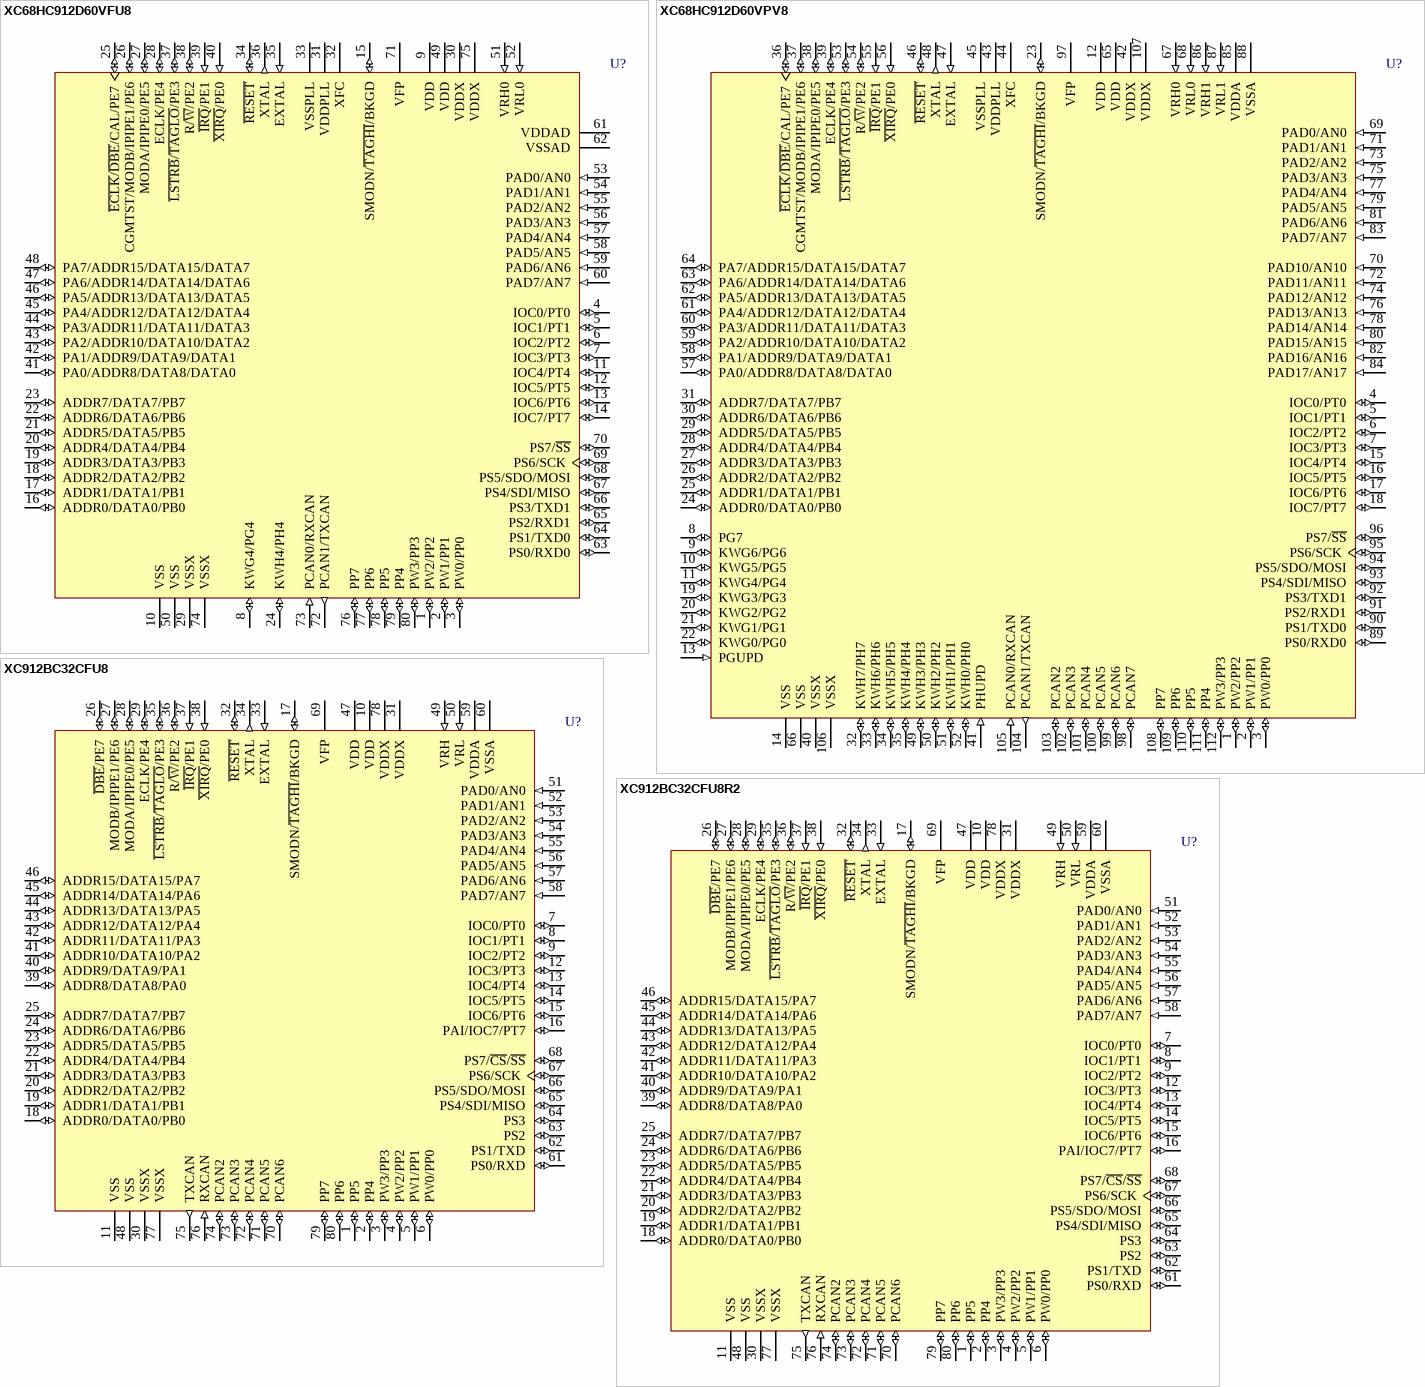
[diagram p140: symbols XC68HC912D60VFU8 to XC912BC32CFU8R2]

## XC68HC912D60VFU8
designator U?
16-Bit Microcontroller; PackageDocument: 2000; Published: 21-Mar-2003; LatestRevisionDate: 6-Jun-2005; LatestRevisionNote: Stylized 3D Model Added.; DatasheetDocument: Jul-2002; PackageReference: 841B; Publisher: Altium Limited; Code_IPC: QFP14X14-80; ComponentLink1Description: Manufacturer Link; ComponentLink1URL: http://www.freescale.com/; ComponentLink2Description: Datasheet; ComponentLink2URL: http://www.freescale.com/files/microcontrollers/doc/data_sheet/MC68HC912D60.pdf
footprint 841B (Plastic QFP; 80 Leads; Body 14 x 14 mm; Pitch 0.65 mm)
3D model XC68HC912-841B (Plastic QFP; 80 Leads; Body 14 x 14 mm; Pitch 0.65 mm)
pins: 1 PW2/PP2 (io), 2 PW1/PP1 (io), 3 PW0/PP0 (io), 4 IOC0/PT0 (io), 5 IOC1/PT1 (io), 6 IOC2/PT2 (io), 7 IOC3/PT3 (io), 8 KWG4/PG4 (io), 9 VDD (power), 10 VSS (power), 11 IOC4/PT4 (io), 12 IOC5/PT5 (io), 13 IOC6/PT6 (io), 14 IOC7/PT7 (io), 15 SMODN/~{TAGHI}/BKGD (io), 16 ADDR0/DATA0/PB0 (io), 17 ADDR1/DATA1/PB1 (io), 18 ADDR2/DATA2/PB2 (io), 19 ADDR3/DATA3/PB3 (io), 20 ADDR4/DATA4/PB4 (io), 21 ADDR5/DATA5/PB5 (io), 22 ADDR6/DATA6/PB6 (io), 23 ADDR7/DATA7/PB7 (io), 24 KWH4/PH4 (io), 25 ~{ECLK}/~{DBE}/CAL/PE7 (io), 26 CGMTST/MODB/IPIPE1/PE6 (io), 27 MODA/IPIPE0/PE5 (io), 28 ECLK/PE4 (io), 29 VSSX (power), 30 VDDX (power), 31 VDDPLL (power), 32 XFC, 33 VSSPLL (power), 34 ~{RESET} (io), 35 EXTAL (in), 36 XTAL (out), 37 ~{LSTRB}/~{TAGLO}/PE3 (io), 38 R/~{W}/PE2 (io), 39 ~{IRQ}/PE1 (in), 40 ~{XIRQ}/PE0 (in), 41 PA0/ADDR8/DATA8/DATA0 (io), 42 PA1/ADDR9/DATA9/DATA1 (io), 43 PA2/ADDR10/DATA10/DATA2 (io), 44 PA3/ADDR11/DATA11/DATA3 (io), 45 PA4/ADDR12/DATA12/DATA4 (io), 46 PA5/ADDR13/DATA13/DATA5 (io), 47 PA6/ADDR14/DATA14/DATA6 (io), 48 PA7/ADDR15/DATA15/DATA7 (io), 49 VDD (power), 50 VSS (power), 51 VRH0 (in), 52 VRL0 (in), 53 PAD0/AN0 (in), 54 PAD1/AN1 (in), 55 PAD2/AN2 (in), 56 PAD3/AN3 (in), 57 PAD4/AN4 (in), 58 PAD5/AN5 (in), 59 PAD6/AN6 (in), 60 PAD7/AN7 (in), 61 VDDAD (power), 62 VSSAD (power), 63 PS0/RXD0 (io), 64 PS1/TXD0 (io), 65 PS2/RXD1 (io), 66 PS3/TXD1 (io), 67 PS4/SDI/MISO (io), 68 PS5/SDO/MOSI (io), 69 PS6/SCK (io), 70 PS7/~{SS} (io), 71 VFP (power), 72 PCAN1/TXCAN (out), 73 PCAN0/RXCAN (in), 74 VSSX (power), 75 VDDX (power), 76 PP7 (io), 77 PP6 (io), 78 PP5 (io), 79 PP4 (io), 80 PW3/PP3 (io)

## XC68HC912D60VPV8
designator U?
16-Bit Microcontroller; PackageDocument: rev3.1, Nov-2000; Published: 21-Mar-2003; LatestRevisionDate: 6-Jun-2005; LatestRevisionNote: Stylized 3D Model Added.; DatasheetDocument: Jul-2002; PackageReference: 987-01; Publisher: Altium Limited; ComponentLink1Description: Manufacturer Link; ComponentLink1URL: http://www.freescale.com/; ComponentLink2Description: Datasheet; ComponentLink2URL: http://www.freescale.com/files/microcontrollers/doc/data_sheet/MC68HC912D60.pdf
footprint 987-01 (QFP; 112 Leads; Body 20 x 20 mm; Pitch 0.65 mm)
3D model XC68HC912-987-01 (QFP; 112 Leads; Body 20 x 20 mm; Pitch 0.65 mm)
pins: 1 PW2/PP2 (io), 2 PW1/PP1 (io), 3 PW0/PP0 (io), 4 IOC0/PT0 (io), 5 IOC1/PT1 (io), 6 IOC2/PT2 (io), 7 IOC3/PT3 (io), 8 PG7 (io), 9 KWG6/PG6 (io), 10 KWG5/PG5 (io), 11 KWG4/PG4 (io), 12 VDD (power), 13 PGUPD (in), 14 VSS (power), 15 IOC4/PT4 (io), 16 IOC5/PT5 (io), 17 IOC6/PT6 (io), 18 IOC7/PT7 (io), 19 KWG3/PG3 (io), 20 KWG2/PG2 (io), 21 KWG1/PG1 (io), 22 KWG0/PG0 (io), 23 SMODN/~{TAGHI}/BKGD (io), 24 ADDR0/DATA0/PB0 (io), 25 ADDR1/DATA1/PB1 (io), 26 ADDR2/DATA2/PB2 (io), 27 ADDR3/DATA3/PB3 (io), 28 ADDR4/DATA4/PB4 (io), 29 ADDR5/DATA5/PB5 (io), 30 ADDR6/DATA6/PB6 (io), 31 ADDR7/DATA7/PB7 (io), 32 KWH7/PH7 (io), 33 KWH6/PH6 (io), 34 KWH5/PH5 (io), 35 KWH4/PH4 (io), 36 ~{ECLK}/~{DBE}/CAL/PE7 (io), 37 CGMTST/MODB/IPIPE1/PE6 (io), 38 MODA/IPIPE0/PE5 (io), 39 ECLK/PE4 (io), 40 VSSX (power), 41 PHUPD (in), 42 VDDX (power), 43 VDDPLL (power), 44 XFC, 45 VSSPLL (power), 46 ~{RESET} (io), 47 EXTAL (in), 48 XTAL (out), 49 KWH3/PH3 (io), 50 KWH2/PH2 (io), 51 KWH1/PH1 (io), 52 KWH0/PH0 (io), 53 ~{LSTRB}/~{TAGLO}/PE3 (io), 54 R/~{W}/PE2 (io), 55 ~{IRQ}/PE1 (in), 56 ~{XIRQ}/PE0 (in), 57 PA0/ADDR8/DATA8/DATA0 (io), 58 PA1/ADDR9/DATA9/DATA1 (io), 59 PA2/ADDR10/DATA10/DATA2 (io), 60 PA3/ADDR11/DATA11/DATA3 (io), 61 PA4/ADDR12/DATA12/DATA4 (io), 62 PA5/ADDR13/DATA13/DATA5 (io), 63 PA6/ADDR14/DATA14/DATA6 (io), 64 PA7/ADDR15/DATA15/DATA7 (io), 65 VDD (power), 66 VSS (power), 67 VRH0 (in), 68 VRL0 (in), 69 PAD0/AN0 (in), 70 PAD10/AN10 (in), 71 PAD1/AN1 (in), 72 PAD11/AN11 (in), 73 PAD2/AN2 (in), 74 PAD12/AN12 (in), 75 PAD3/AN3 (in), 76 PAD13/AN13 (in), 77 PAD4/AN4 (in), 78 PAD14/AN14 (in), 79 PAD5/AN5 (in), 80 PAD15/AN15 (in), 81 PAD6/AN6 (in), 82 PAD16/AN16 (in), 83 PAD7/AN7 (in), 84 PAD17/AN17 (in), 85 VDDA (power), 86 VRH1 (in), 87 VRL1 (in), 88 VSSA (power), 89 PS0/RXD0 (io), 90 PS1/TXD0 (io), 91 PS2/RXD1 (io), 92 PS3/TXD1 (io), 93 PS4/SDI/MISO (io), 94 PS5/SDO/MOSI (io), 95 PS6/SCK (io), 96 PS7/~{SS} (io), 97 VFP (power), 98 PCAN7 (io), 99 PCAN6 (io), 100 PCAN5 (io), 101 PCAN4 (io), 102 PCAN3 (io), 103 PCAN2 (io), 104 PCAN1/TXCAN (out), 105 PCAN0/RXCAN (in), 106 VSSX (power), 107 VDDX (power), 108 PP7 (io), 109 PP6 (io), 110 PP5 (io), 111 PP4 (io), 112 PW3/PP3 (io)